# Altium schematic symbol library YL-LPC4350-CORE-V1.0 _Library.SchLib: 156 symbols (part 9 of 10)

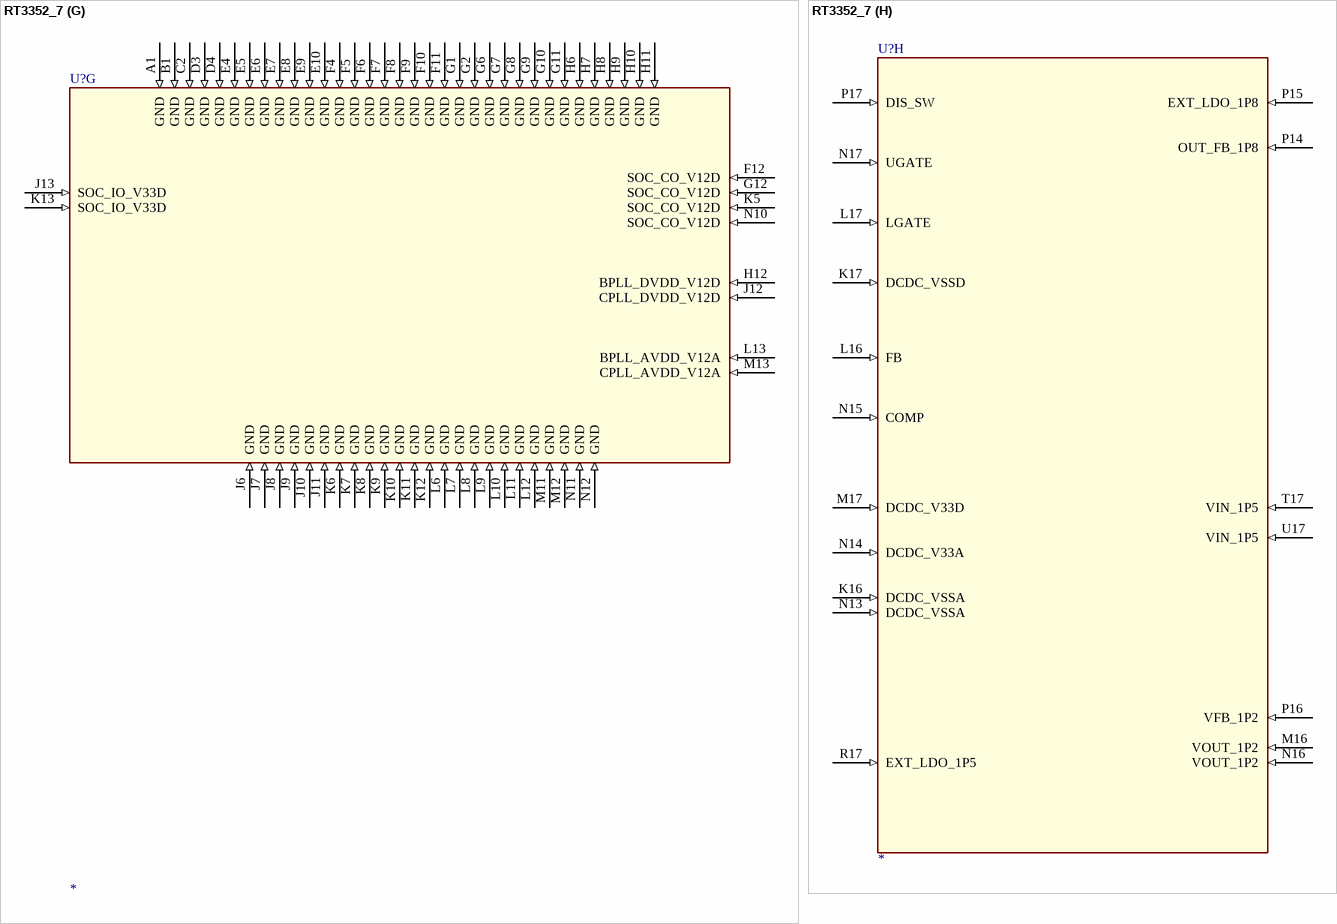
[diagram p117: symbol RT3352_7]

## RT3352_7
designator U?
part A pins: A6 PLL_VC_CAP (in), A7 LDORF_OUT_V12 (out), A8 RF_BB2_V12A (in), A9 ADC_V12 (in), B6 BG_V33A (in), B7 LDORF_IN_VX (in), B8 PLL_X2 (out), B9 PLL_X1 (in), C3 RF0_V12A (in), C4 RF0_IF_V12A (in), C5 VCO_V12A (in), C6 LDOPLL_OUT_V12 (out), C7 BG_RES_12K (in), D5 PLL_V12A (in), D6 RF_BB1_V12A (in), E3 RF1_IF_V12A (in), F3 RF1_V12A (in)
part B pins: A2 RF0_PA_OUTN (out), A3 RF0_PA_OUTP (out), A4 RF0_2G_INN (in), A5 RF0_2G_INP (in), A10 LNA_PE_G1 (out), A11 ANT_TRNB (out), B2 RF0_PA_V33N (in), B3 RF0_PA_V33P (in), B4 RF0_PA1_V33A (in), B10 LNA_PE_G0 (out), B11 ANT_TRN (out), C1 RF1_2G_INP (in), C8 BASE_TRX_IP (io), C9 BASE_TRX_IN (io), C10 PA_PE_G1 (out), D1 RF1_2G_INN (in), D2 RF1_PA_V33A (in), D7 RF_TSSI_IN (in), D8 BASE_TRX_QP (io), D9 BASE_TRX_QN (io), D10 PA_PE_G0 (out), D13 WLAN_LED_N (out), E1 RF1_PA_OUTP (out), E2 RF1_PA_V33P (in), F1 RF1_PA_OUTN (out), F2 RF1_PA_V33N (in)
part C pins: H15 MD0 (io), H16 MD1 (io), H17 MD2 (io), J12 DDR_IOC_V12D (in), J13 DDR_IOC_V12D (in), J14 MD3 (io), J15 MDQM0 (io), J16 MDQS0 (io), J17 MD6 (io), K12 DDR_IO_V33D (in), K13 DDR_IO_V33D (in), K14 MD8 (io), K15 MD7 (io), K16 MD5 (io), K17 MD4 (io), L12 DDR_IOL_V33D (in), L13 DDR_IOL_V33D (in), L14 MD13 (io), L15 MD10 (io), L16 MD11 (io), L17 MD9 (io), M11 DDR_IO_V33D (in), M12 DDR_IOR_V09D (in), M13 MD15 (io), M14 MD12 (io), M15 MD14 (io), M16 MDQS1 (io), M17 MDQM1 (io), N8 DDR_IO_V33D (in), N9 DDR_IO_V33D (in), N10 DDR_IO_V33D (in), N11 DDR_IO_V33D (in), N12 DDR_IOR_V09D (in), N13 MA0 (io), N14 MA3 (io), N15 MA8 (io), N16 MA10 (io), N17 MA13 (io), P8 MD31 (io), P9 MDQS3 (io), P10 MD22 (io), P11 MDQM2 (io), P12 MD16 (io), P13 MODT (io), P14 MA6 (io), P15 MA4 (io), P16 MA5 (io), P17 MA12 (io), R8 MD30 (io), R9 MD27 (io), R10 MD23 (io), R11 MDQS2 (io), R12 MD17 (io), R13 MCKE (io), R14 MCAS_N (io), R15 MA2 (io), R16 MA7 (io), R17 MA11 (io), T8 MD29 (io), T9 MDQM3 (io), T10 MD24 (io), T11 MD20 (io), T12 MD18 (io), T13 MCK_N (io), T14 MRAS_N (io), T15 MBA0 (io), T16 MA1 (io), T17 MA9 (io), U8 MD28 (io), U9 MD25 (io), U10 MD26 (io), U11 MD21 (io), U12 MD19 (io), U13 MCK_P (io), U14 MWE_N (io), U15 MBA1 (io), U16 MBA2 (io), U17 MCS_N (io)
part D pins: ?? NC (io), A13 JTAG_TMS (in), A14 SPI_MISO (in), A15 SPI_CS0 (out), A16 TXD (out), A17 RTS_N (out), B13 JTAG_TCLK (in), B14 SPI_MOSI (out), B15 SPI_CLK (out), B16 DTR_N (out), B17 DCD_N (in), C12 GPIO0 (io), C13 JTAG_TRST_N (in), C14 SPI_CS1 (out), C15 DSR_N (in), C16 CTS_N (in), D12 JTAG_TDO (out), D14 RIN (in), D15 RXD (in), E12 JTAG_TDI (in), E13 PORST_N (in), G15 RXD2 (in), G16 TXD2 (out), G17 I2C_SCLK (io), H14 I2C_SD (out)
part E pins: C17 UPHY1_PADP (io), D16 UPHY1_ID (io), D17 UPHY1_PADM (io), E14 UPHY_VDDL_V12D (in), E15 UPHY1_VBUS (io), E16 UPHY1_VRES (io), E17 UPHY0_PADP (io), F14 UPHY_VDDA_V33A (in), F15 UPHY0_VBUS (io), F16 UPHY0_VRES (io), F17 UPHY0_PADM (io), G14 UPHY0_ID (io)
part F pins: A12 EPHY_LED1_N (out), B12 EPHY_LED0_N (out), C11 EPHY_LED4_N (out), D11 EPHY_LED3_N (out), E11 EPHY_LED2_N (out), H3 MDC (out), H4 GE1_RXD0 (in), J3 MDIO (io), J4 GE1_RXDV (in), K3 GE1_RXD1 (in), K4 GE1_RXCLK (io), L3 GE1_RXD2 (in), L4 GE1_RXD3 (in), M3 GE1_TXD2 (out), M4 GE1_TXD3 (out), N3 GE1_TXD1 (out), N4 GE1_TXCLK (io), P3 GE1_TXD0 (out), P4 GE1_TXEN (out), P5 EPHY_V33A (in), P6 EPHY_V33A (in), P7 EPHY_V33A (in), R1 EPHY_REF_RES (io), R2 EPHY_TXN_p0 (out), R3 EPHY_RXN_p1 (in), R4 EPHY_RXN_p2 (in), R5 EPHY_RXP_p2 (in), R6 EPHY_RXP_p3 (in), R7 EPHY_RXN_p3 (in), T1 EPHY_RXN_p0 (in), T2 EPHY_TXP_p0 (out), T3 EPHY_RXP_p1 (in), T4 EPHY_TXN_p2 (out), T5 EPHY_TXN_p3 (out), T6 EPHY_RXN_p4 (in), T7 EPHY_TXN_p4 (out), U1 EPHY_RXP_p0 (in), U2 EPHY_TXP_p1 (out), U3 EPHY_TXN_p1 (out), U4 EPHY_TXP_p2 (out), U5 EPHY_TXP_p3 (out), U6 EPHY_RXP_p4 (in), U7 EPHY_TXP_p4 (out)
part G pins: A1 GND (in), B1 GND (in), C2 GND (in), D3 GND (in), D4 GND (in), E4 GND (in), E5 GND (in), E6 GND (in), E7 GND (in), E8 GND (in), E9 GND (in), E10 GND (in), F4 GND (in), F5 GND (in), F6 GND (in), F7 GND (in), F8 GND (in), F9 GND (in), F10 GND (in), F11 GND (in), F12 SOC_CO_V12D (in), G1 GND (in), G2 GND (in), G6 GND (in), G7 GND (in), G8 GND (in), G9 GND (in), G10 GND (in), G11 GND (in), G12 SOC_CO_V12D (in), H6 GND (in), H7 GND (in), H8 GND (in), H9 GND (in), H10 GND (in), H11 GND (in), H12 BPLL_DVDD_V12D (in), J6 GND (in), J7 GND (in), J8 GND (in), J9 GND (in), J10 GND (in), J11 GND (in), J12 CPLL_DVDD_V12D (in), J13 SOC_IO_V33D (in), K5 SOC_CO_V12D (in), K6 GND (in), K7 GND (in), K8 GND (in), K9 GND (in), K10 GND (in), K11 GND (in), K12 GND (in), K13 SOC_IO_V33D (in), L6 GND (in), L7 GND (in), L8 GND (in), L9 GND (in), L10 GND (in), L11 GND (in), L12 GND (in), L13 BPLL_AVDD_V12A (in), M11 GND (in), M12 GND (in), M13 CPLL_AVDD_V12A (in), N10 SOC_CO_V12D (in), N11 GND (in), N12 GND (in)
part H pins: K16 DCDC_VSSA (in), K17 DCDC_VSSD (in), L16 FB (in), L17 LGATE (in), M16 VOUT_1P2 (in), M17 DCDC_V33D (in), N13 DCDC_VSSA (in), N14 DCDC_V33A (in), N15 COMP (in), N16 VOUT_1P2 (in), N17 UGATE (in), P14 OUT_FB_1P8 (in), P15 EXT_LDO_1P8 (in), P16 VFB_1P2 (in), P17 DIS_SW (in), R17 EXT_LDO_1P5 (in), T17 VIN_1P5 (in), U17 VIN_1P5 (in)

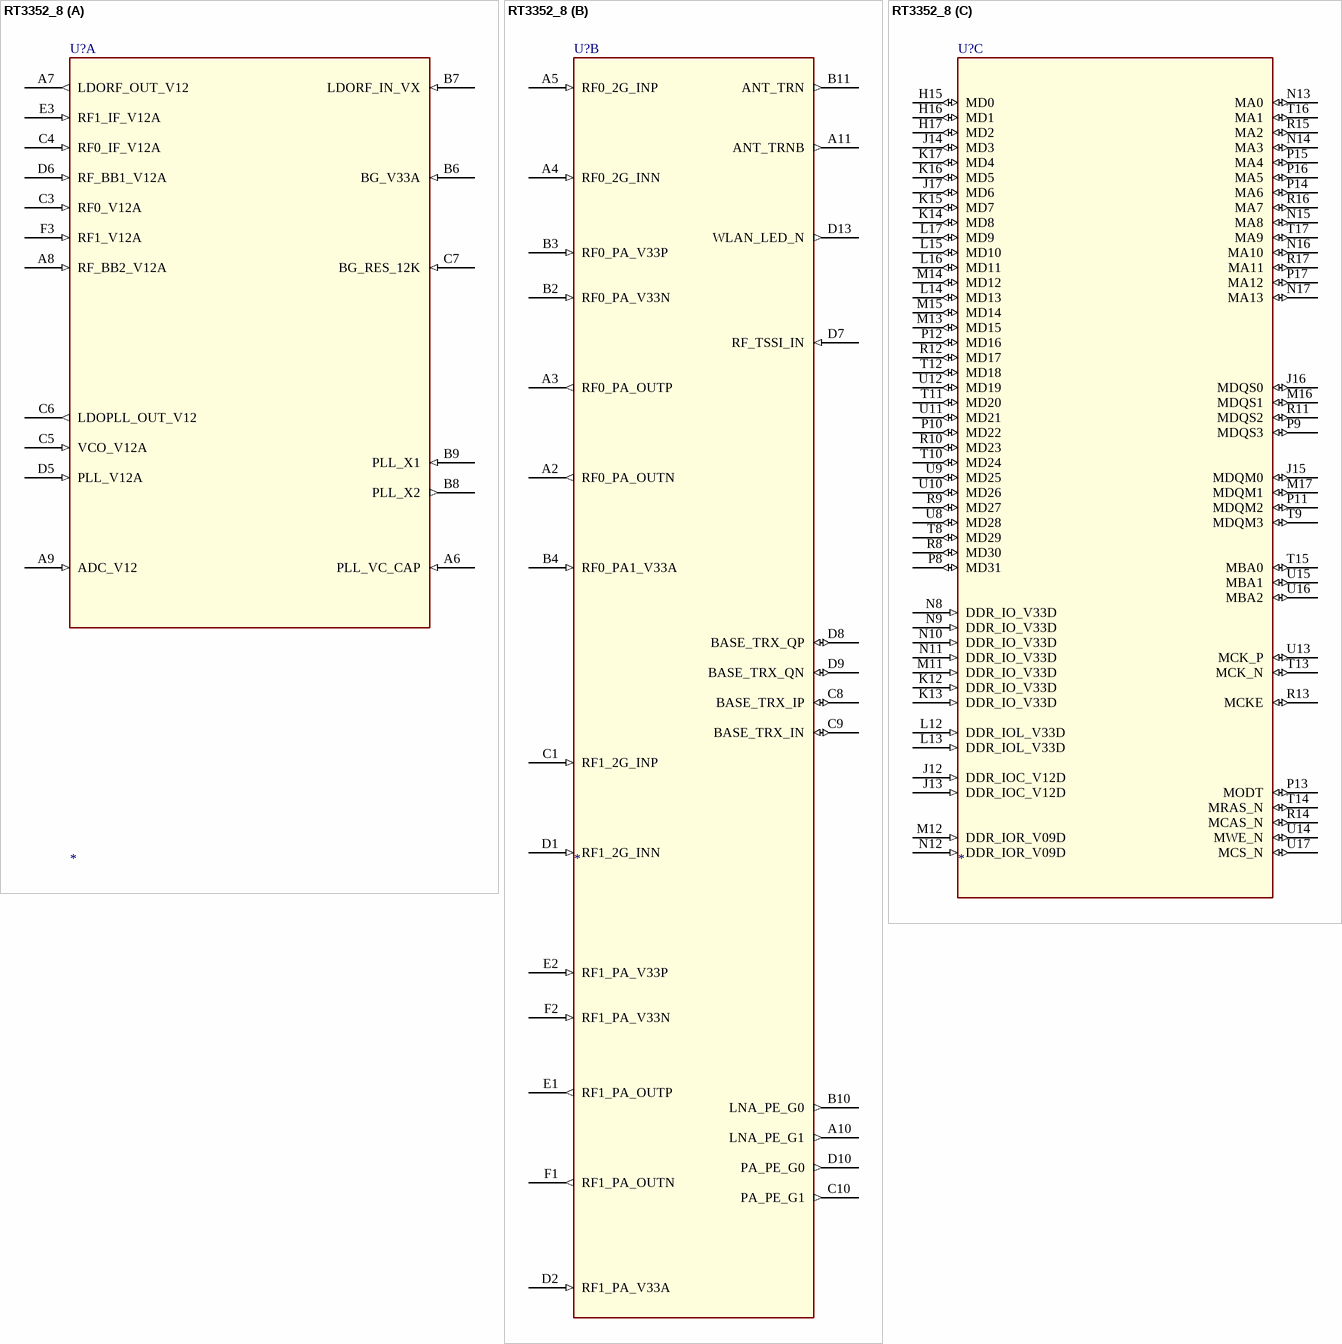
[diagram p118: symbol RT3352_8]

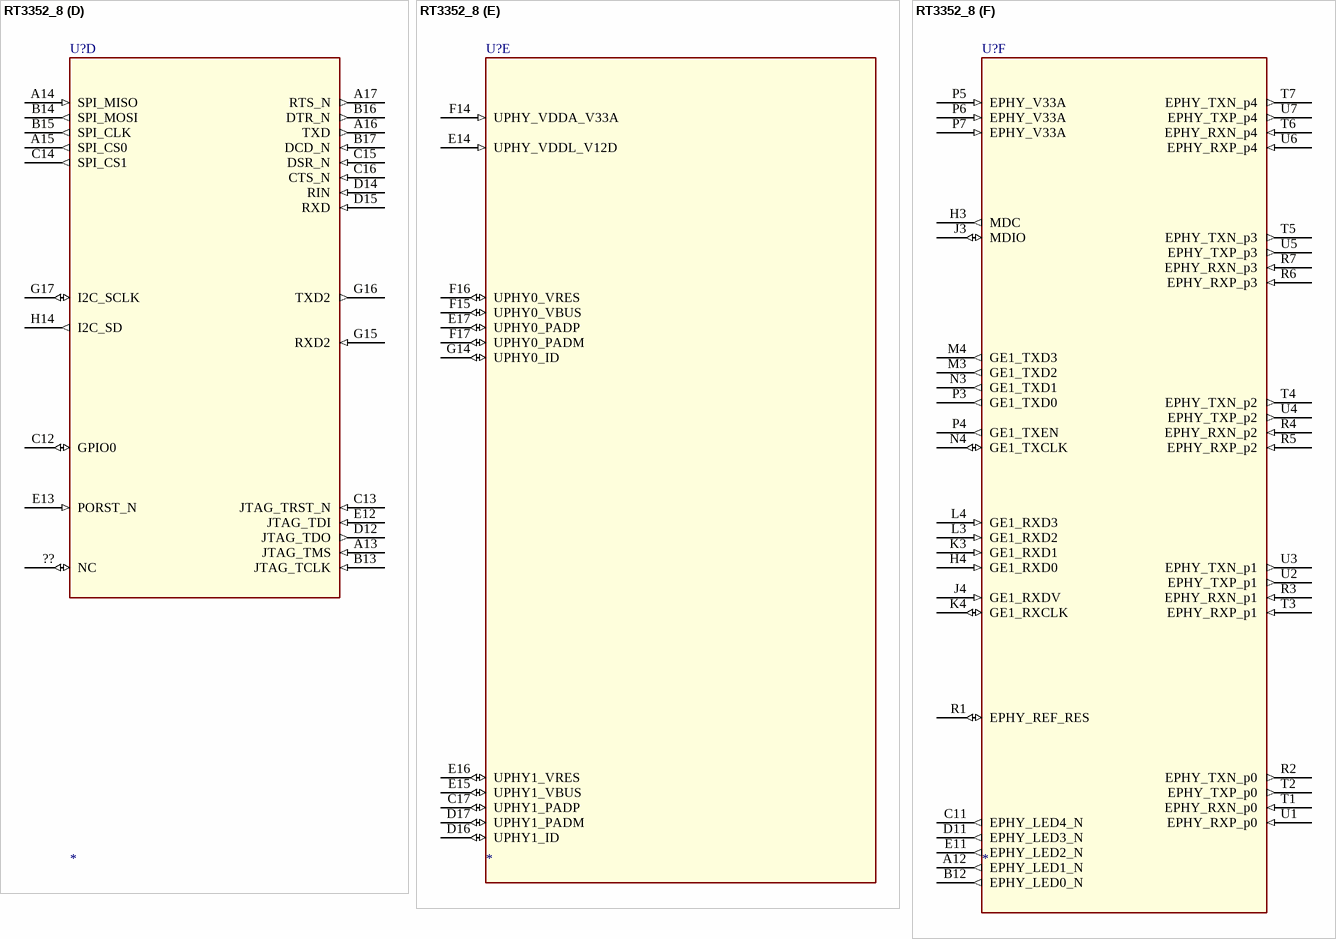
[diagram p119: symbol RT3352_8]

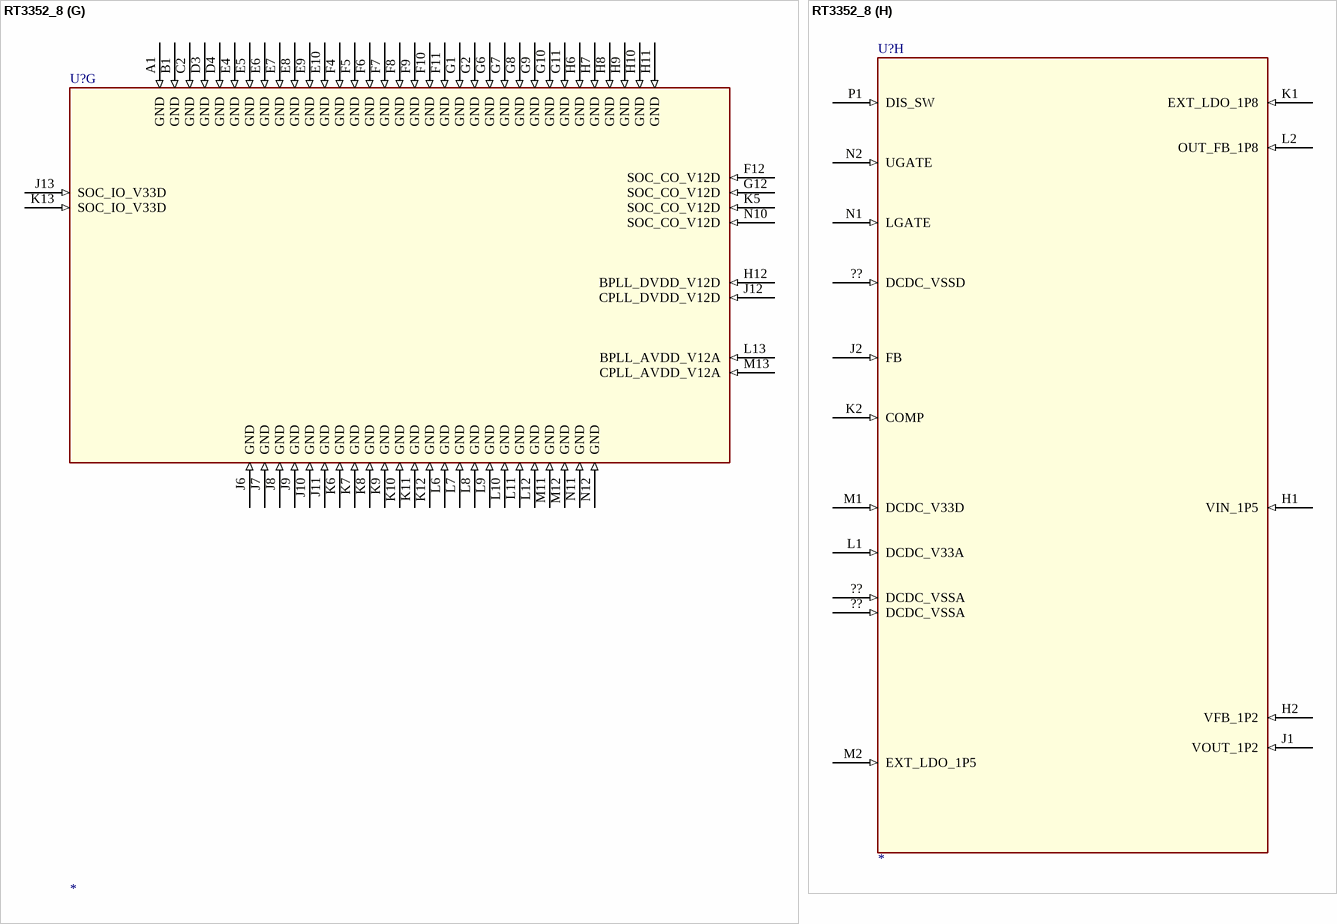
[diagram p120: symbol RT3352_8]

## RT3352_8
designator U?
part A pins: A6 PLL_VC_CAP (in), A7 LDORF_OUT_V12 (out), A8 RF_BB2_V12A (in), A9 ADC_V12 (in), B6 BG_V33A (in), B7 LDORF_IN_VX (in), B8 PLL_X2 (out), B9 PLL_X1 (in), C3 RF0_V12A (in), C4 RF0_IF_V12A (in), C5 VCO_V12A (in), C6 LDOPLL_OUT_V12 (out), C7 BG_RES_12K (in), D5 PLL_V12A (in), D6 RF_BB1_V12A (in), E3 RF1_IF_V12A (in), F3 RF1_V12A (in)
part B pins: A2 RF0_PA_OUTN (out), A3 RF0_PA_OUTP (out), A4 RF0_2G_INN (in), A5 RF0_2G_INP (in), A10 LNA_PE_G1 (out), A11 ANT_TRNB (out), B2 RF0_PA_V33N (in), B3 RF0_PA_V33P (in), B4 RF0_PA1_V33A (in), B10 LNA_PE_G0 (out), B11 ANT_TRN (out), C1 RF1_2G_INP (in), C8 BASE_TRX_IP (io), C9 BASE_TRX_IN (io), C10 PA_PE_G1 (out), D1 RF1_2G_INN (in), D2 RF1_PA_V33A (in), D7 RF_TSSI_IN (in), D8 BASE_TRX_QP (io), D9 BASE_TRX_QN (io), D10 PA_PE_G0 (out), D13 WLAN_LED_N (out), E1 RF1_PA_OUTP (out), E2 RF1_PA_V33P (in), F1 RF1_PA_OUTN (out), F2 RF1_PA_V33N (in)
part C pins: H15 MD0 (io), H16 MD1 (io), H17 MD2 (io), J12 DDR_IOC_V12D (in), J13 DDR_IOC_V12D (in), J14 MD3 (io), J15 MDQM0 (io), J16 MDQS0 (io), J17 MD6 (io), K12 DDR_IO_V33D (in), K13 DDR_IO_V33D (in), K14 MD8 (io), K15 MD7 (io), K16 MD5 (io), K17 MD4 (io), L12 DDR_IOL_V33D (in), L13 DDR_IOL_V33D (in), L14 MD13 (io), L15 MD10 (io), L16 MD11 (io), L17 MD9 (io), M11 DDR_IO_V33D (in), M12 DDR_IOR_V09D (in), M13 MD15 (io), M14 MD12 (io), M15 MD14 (io), M16 MDQS1 (io), M17 MDQM1 (io), N8 DDR_IO_V33D (in), N9 DDR_IO_V33D (in), N10 DDR_IO_V33D (in), N11 DDR_IO_V33D (in), N12 DDR_IOR_V09D (in), N13 MA0 (io), N14 MA3 (io), N15 MA8 (io), N16 MA10 (io), N17 MA13 (io), P8 MD31 (io), P9 MDQS3 (io), P10 MD22 (io), P11 MDQM2 (io), P12 MD16 (io), P13 MODT (io), P14 MA6 (io), P15 MA4 (io), P16 MA5 (io), P17 MA12 (io), R8 MD30 (io), R9 MD27 (io), R10 MD23 (io), R11 MDQS2 (io), R12 MD17 (io), R13 MCKE (io), R14 MCAS_N (io), R15 MA2 (io), R16 MA7 (io), R17 MA11 (io), T8 MD29 (io), T9 MDQM3 (io), T10 MD24 (io), T11 MD20 (io), T12 MD18 (io), T13 MCK_N (io), T14 MRAS_N (io), T15 MBA0 (io), T16 MA1 (io), T17 MA9 (io), U8 MD28 (io), U9 MD25 (io), U10 MD26 (io), U11 MD21 (io), U12 MD19 (io), U13 MCK_P (io), U14 MWE_N (io), U15 MBA1 (io), U16 MBA2 (io), U17 MCS_N (io)
part D pins: ?? NC (io), A13 JTAG_TMS (in), A14 SPI_MISO (in), A15 SPI_CS0 (out), A16 TXD (out), A17 RTS_N (out), B13 JTAG_TCLK (in), B14 SPI_MOSI (out), B15 SPI_CLK (out), B16 DTR_N (out), B17 DCD_N (in), C12 GPIO0 (io), C13 JTAG_TRST_N (in), C14 SPI_CS1 (out), C15 DSR_N (in), C16 CTS_N (in), D12 JTAG_TDO (out), D14 RIN (in), D15 RXD (in), E12 JTAG_TDI (in), E13 PORST_N (in), G15 RXD2 (in), G16 TXD2 (out), G17 I2C_SCLK (io), H14 I2C_SD (out)
part E pins: C17 UPHY1_PADP (io), D16 UPHY1_ID (io), D17 UPHY1_PADM (io), E14 UPHY_VDDL_V12D (in), E15 UPHY1_VBUS (io), E16 UPHY1_VRES (io), E17 UPHY0_PADP (io), F14 UPHY_VDDA_V33A (in), F15 UPHY0_VBUS (io), F16 UPHY0_VRES (io), F17 UPHY0_PADM (io), G14 UPHY0_ID (io)
part F pins: A12 EPHY_LED1_N (out), B12 EPHY_LED0_N (out), C11 EPHY_LED4_N (out), D11 EPHY_LED3_N (out), E11 EPHY_LED2_N (out), H3 MDC (out), H4 GE1_RXD0 (in), J3 MDIO (io), J4 GE1_RXDV (in), K3 GE1_RXD1 (in), K4 GE1_RXCLK (io), L3 GE1_RXD2 (in), L4 GE1_RXD3 (in), M3 GE1_TXD2 (out), M4 GE1_TXD3 (out), N3 GE1_TXD1 (out), N4 GE1_TXCLK (io), P3 GE1_TXD0 (out), P4 GE1_TXEN (out), P5 EPHY_V33A (in), P6 EPHY_V33A (in), P7 EPHY_V33A (in), R1 EPHY_REF_RES (io), R2 EPHY_TXN_p0 (out), R3 EPHY_RXN_p1 (in), R4 EPHY_RXN_p2 (in), R5 EPHY_RXP_p2 (in), R6 EPHY_RXP_p3 (in), R7 EPHY_RXN_p3 (in), T1 EPHY_RXN_p0 (in), T2 EPHY_TXP_p0 (out), T3 EPHY_RXP_p1 (in), T4 EPHY_TXN_p2 (out), T5 EPHY_TXN_p3 (out), T6 EPHY_RXN_p4 (in), T7 EPHY_TXN_p4 (out), U1 EPHY_RXP_p0 (in), U2 EPHY_TXP_p1 (out), U3 EPHY_TXN_p1 (out), U4 EPHY_TXP_p2 (out), U5 EPHY_TXP_p3 (out), U6 EPHY_RXP_p4 (in), U7 EPHY_TXP_p4 (out)
part G pins: A1 GND (in), B1 GND (in), C2 GND (in), D3 GND (in), D4 GND (in), E4 GND (in), E5 GND (in), E6 GND (in), E7 GND (in), E8 GND (in), E9 GND (in), E10 GND (in), F4 GND (in), F5 GND (in), F6 GND (in), F7 GND (in), F8 GND (in), F9 GND (in), F10 GND (in), F11 GND (in), F12 SOC_CO_V12D (in), G1 GND (in), G2 GND (in), G6 GND (in), G7 GND (in), G8 GND (in), G9 GND (in), G10 GND (in), G11 GND (in), G12 SOC_CO_V12D (in), H6 GND (in), H7 GND (in), H8 GND (in), H9 GND (in), H10 GND (in), H11 GND (in), H12 BPLL_DVDD_V12D (in), J6 GND (in), J7 GND (in), J8 GND (in), J9 GND (in), J10 GND (in), J11 GND (in), J12 CPLL_DVDD_V12D (in), J13 SOC_IO_V33D (in), K5 SOC_CO_V12D (in), K6 GND (in), K7 GND (in), K8 GND (in), K9 GND (in), K10 GND (in), K11 GND (in), K12 GND (in), K13 SOC_IO_V33D (in), L6 GND (in), L7 GND (in), L8 GND (in), L9 GND (in), L10 GND (in), L11 GND (in), L12 GND (in), L13 BPLL_AVDD_V12A (in), M11 GND (in), M12 GND (in), M13 CPLL_AVDD_V12A (in), N10 SOC_CO_V12D (in), N11 GND (in), N12 GND (in)
part H pins: ?? DCDC_VSSD (in), ?? DCDC_VSSA (in), ?? DCDC_VSSA (in), H1 VIN_1P5 (in), H2 VFB_1P2 (in), J1 VOUT_1P2 (in), J2 FB (in), K1 EXT_LDO_1P8 (in), K2 COMP (in), L1 DCDC_V33A (in), L2 OUT_FB_1P8 (in), M1 DCDC_V33D (in), M2 EXT_LDO_1P5 (in), N1 LGATE (in), N2 UGATE (in), P1 DIS_SW (in)

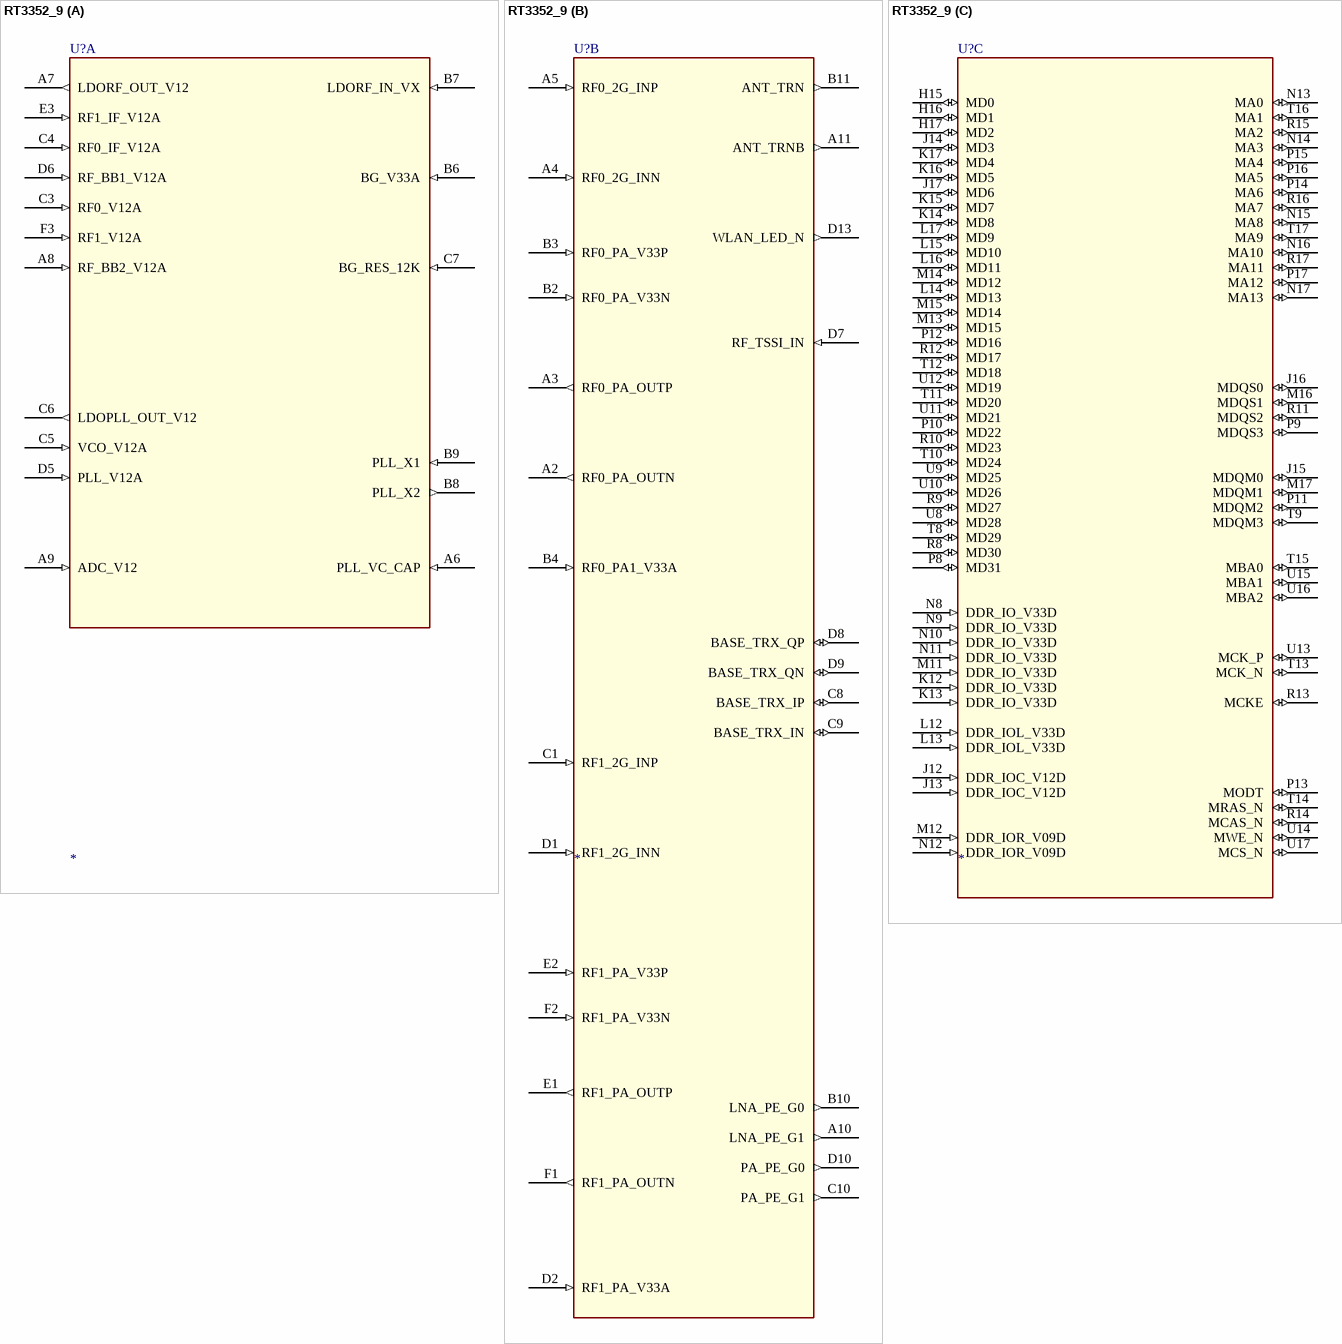
[diagram p121: symbol RT3352_9]

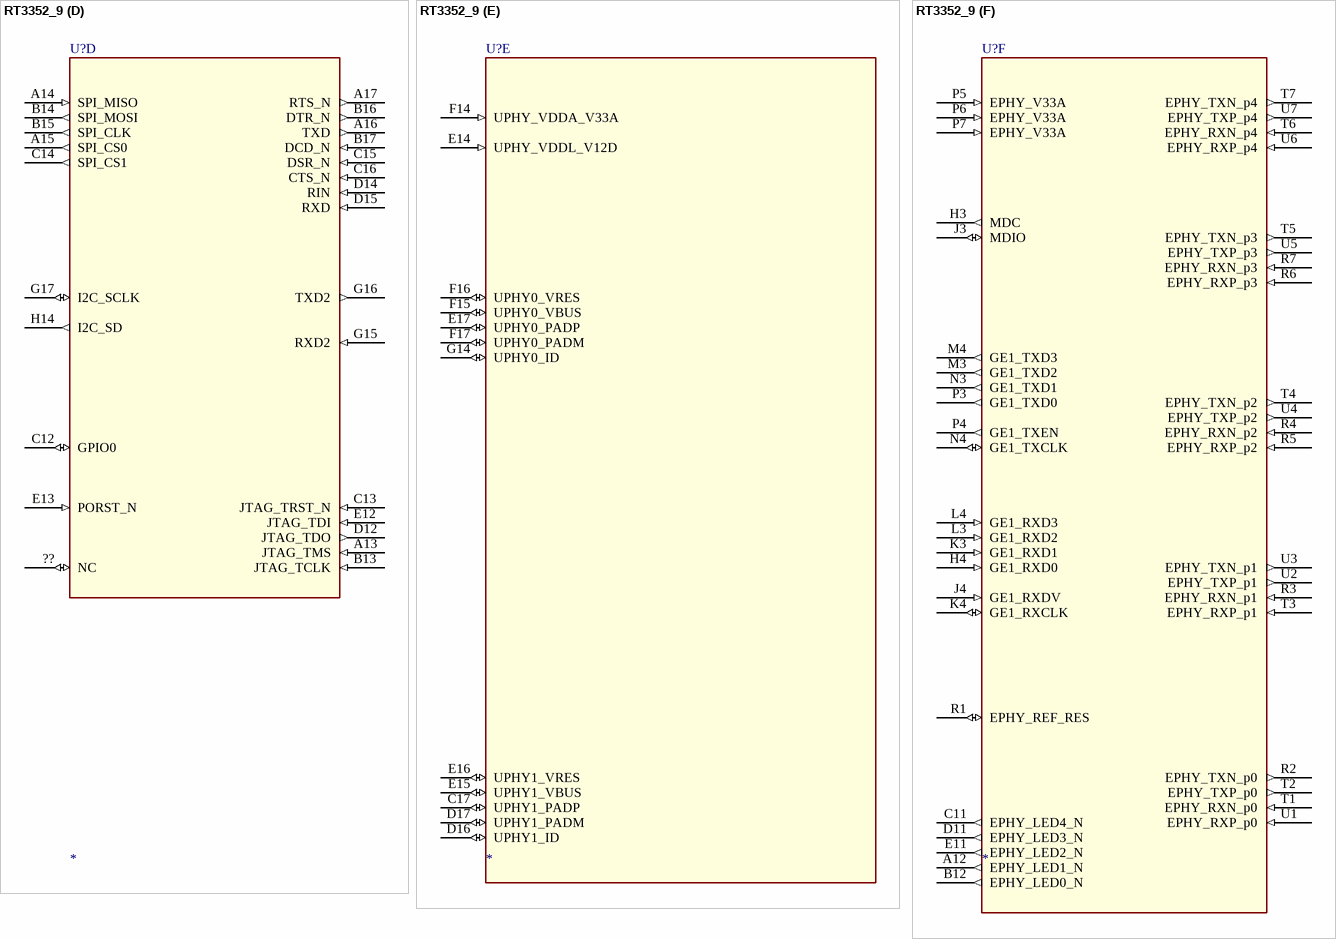
[diagram p122: symbol RT3352_9]

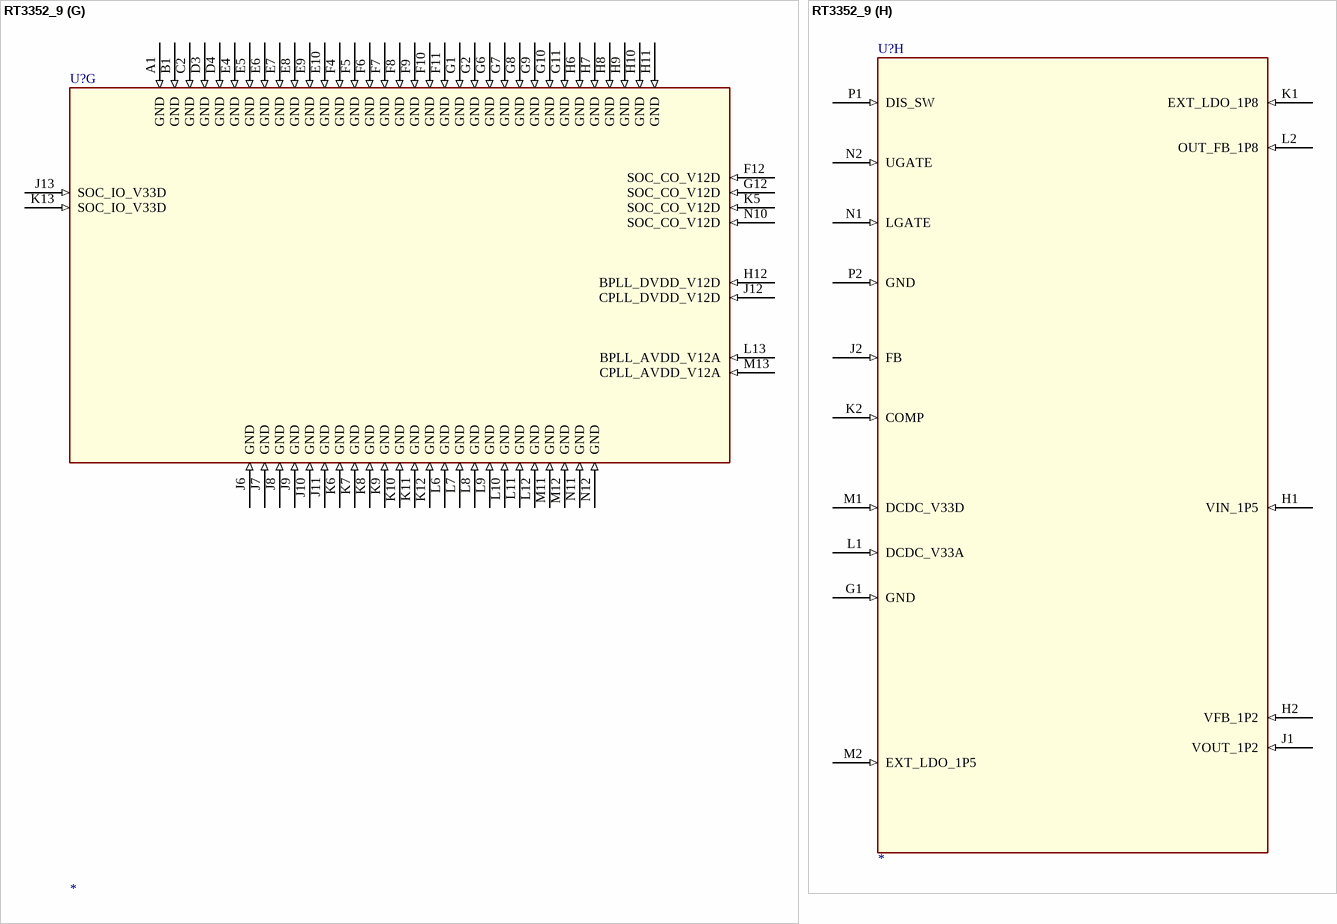
[diagram p123: symbol RT3352_9]

## RT3352_9
designator U?
part A pins: A6 PLL_VC_CAP (in), A7 LDORF_OUT_V12 (out), A8 RF_BB2_V12A (in), A9 ADC_V12 (in), B6 BG_V33A (in), B7 LDORF_IN_VX (in), B8 PLL_X2 (out), B9 PLL_X1 (in), C3 RF0_V12A (in), C4 RF0_IF_V12A (in), C5 VCO_V12A (in), C6 LDOPLL_OUT_V12 (out), C7 BG_RES_12K (in), D5 PLL_V12A (in), D6 RF_BB1_V12A (in), E3 RF1_IF_V12A (in), F3 RF1_V12A (in)
part B pins: A2 RF0_PA_OUTN (out), A3 RF0_PA_OUTP (out), A4 RF0_2G_INN (in), A5 RF0_2G_INP (in), A10 LNA_PE_G1 (out), A11 ANT_TRNB (out), B2 RF0_PA_V33N (in), B3 RF0_PA_V33P (in), B4 RF0_PA1_V33A (in), B10 LNA_PE_G0 (out), B11 ANT_TRN (out), C1 RF1_2G_INP (in), C8 BASE_TRX_IP (io), C9 BASE_TRX_IN (io), C10 PA_PE_G1 (out), D1 RF1_2G_INN (in), D2 RF1_PA_V33A (in), D7 RF_TSSI_IN (in), D8 BASE_TRX_QP (io), D9 BASE_TRX_QN (io), D10 PA_PE_G0 (out), D13 WLAN_LED_N (out), E1 RF1_PA_OUTP (out), E2 RF1_PA_V33P (in), F1 RF1_PA_OUTN (out), F2 RF1_PA_V33N (in)
part C pins: H15 MD0 (io), H16 MD1 (io), H17 MD2 (io), J12 DDR_IOC_V12D (in), J13 DDR_IOC_V12D (in), J14 MD3 (io), J15 MDQM0 (io), J16 MDQS0 (io), J17 MD6 (io), K12 DDR_IO_V33D (in), K13 DDR_IO_V33D (in), K14 MD8 (io), K15 MD7 (io), K16 MD5 (io), K17 MD4 (io), L12 DDR_IOL_V33D (in), L13 DDR_IOL_V33D (in), L14 MD13 (io), L15 MD10 (io), L16 MD11 (io), L17 MD9 (io), M11 DDR_IO_V33D (in), M12 DDR_IOR_V09D (in), M13 MD15 (io), M14 MD12 (io), M15 MD14 (io), M16 MDQS1 (io), M17 MDQM1 (io), N8 DDR_IO_V33D (in), N9 DDR_IO_V33D (in), N10 DDR_IO_V33D (in), N11 DDR_IO_V33D (in), N12 DDR_IOR_V09D (in), N13 MA0 (io), N14 MA3 (io), N15 MA8 (io), N16 MA10 (io), N17 MA13 (io), P8 MD31 (io), P9 MDQS3 (io), P10 MD22 (io), P11 MDQM2 (io), P12 MD16 (io), P13 MODT (io), P14 MA6 (io), P15 MA4 (io), P16 MA5 (io), P17 MA12 (io), R8 MD30 (io), R9 MD27 (io), R10 MD23 (io), R11 MDQS2 (io), R12 MD17 (io), R13 MCKE (io), R14 MCAS_N (io), R15 MA2 (io), R16 MA7 (io), R17 MA11 (io), T8 MD29 (io), T9 MDQM3 (io), T10 MD24 (io), T11 MD20 (io), T12 MD18 (io), T13 MCK_N (io), T14 MRAS_N (io), T15 MBA0 (io), T16 MA1 (io), T17 MA9 (io), U8 MD28 (io), U9 MD25 (io), U10 MD26 (io), U11 MD21 (io), U12 MD19 (io), U13 MCK_P (io), U14 MWE_N (io), U15 MBA1 (io), U16 MBA2 (io), U17 MCS_N (io)
part D pins: ?? NC (io), A13 JTAG_TMS (in), A14 SPI_MISO (in), A15 SPI_CS0 (out), A16 TXD (out), A17 RTS_N (out), B13 JTAG_TCLK (in), B14 SPI_MOSI (out), B15 SPI_CLK (out), B16 DTR_N (out), B17 DCD_N (in), C12 GPIO0 (io), C13 JTAG_TRST_N (in), C14 SPI_CS1 (out), C15 DSR_N (in), C16 CTS_N (in), D12 JTAG_TDO (out), D14 RIN (in), D15 RXD (in), E12 JTAG_TDI (in), E13 PORST_N (in), G15 RXD2 (in), G16 TXD2 (out), G17 I2C_SCLK (io), H14 I2C_SD (out)
part E pins: C17 UPHY1_PADP (io), D16 UPHY1_ID (io), D17 UPHY1_PADM (io), E14 UPHY_VDDL_V12D (in), E15 UPHY1_VBUS (io), E16 UPHY1_VRES (io), E17 UPHY0_PADP (io), F14 UPHY_VDDA_V33A (in), F15 UPHY0_VBUS (io), F16 UPHY0_VRES (io), F17 UPHY0_PADM (io), G14 UPHY0_ID (io)
part F pins: A12 EPHY_LED1_N (out), B12 EPHY_LED0_N (out), C11 EPHY_LED4_N (out), D11 EPHY_LED3_N (out), E11 EPHY_LED2_N (out), H3 MDC (out), H4 GE1_RXD0 (in), J3 MDIO (io), J4 GE1_RXDV (in), K3 GE1_RXD1 (in), K4 GE1_RXCLK (io), L3 GE1_RXD2 (in), L4 GE1_RXD3 (in), M3 GE1_TXD2 (out), M4 GE1_TXD3 (out), N3 GE1_TXD1 (out), N4 GE1_TXCLK (io), P3 GE1_TXD0 (out), P4 GE1_TXEN (out), P5 EPHY_V33A (in), P6 EPHY_V33A (in), P7 EPHY_V33A (in), R1 EPHY_REF_RES (io), R2 EPHY_TXN_p0 (out), R3 EPHY_RXN_p1 (in), R4 EPHY_RXN_p2 (in), R5 EPHY_RXP_p2 (in), R6 EPHY_RXP_p3 (in), R7 EPHY_RXN_p3 (in), T1 EPHY_RXN_p0 (in), T2 EPHY_TXP_p0 (out), T3 EPHY_RXP_p1 (in), T4 EPHY_TXN_p2 (out), T5 EPHY_TXN_p3 (out), T6 EPHY_RXN_p4 (in), T7 EPHY_TXN_p4 (out), U1 EPHY_RXP_p0 (in), U2 EPHY_TXP_p1 (out), U3 EPHY_TXN_p1 (out), U4 EPHY_TXP_p2 (out), U5 EPHY_TXP_p3 (out), U6 EPHY_RXP_p4 (in), U7 EPHY_TXP_p4 (out)
part G pins: A1 GND (in), B1 GND (in), C2 GND (in), D3 GND (in), D4 GND (in), E4 GND (in), E5 GND (in), E6 GND (in), E7 GND (in), E8 GND (in), E9 GND (in), E10 GND (in), F4 GND (in), F5 GND (in), F6 GND (in), F7 GND (in), F8 GND (in), F9 GND (in), F10 GND (in), F11 GND (in), F12 SOC_CO_V12D (in), G1 GND (in), G2 GND (in), G6 GND (in), G7 GND (in), G8 GND (in), G9 GND (in), G10 GND (in), G11 GND (in), G12 SOC_CO_V12D (in), H6 GND (in), H7 GND (in), H8 GND (in), H9 GND (in), H10 GND (in), H11 GND (in), H12 BPLL_DVDD_V12D (in), J6 GND (in), J7 GND (in), J8 GND (in), J9 GND (in), J10 GND (in), J11 GND (in), J12 CPLL_DVDD_V12D (in), J13 SOC_IO_V33D (in), K5 SOC_CO_V12D (in), K6 GND (in), K7 GND (in), K8 GND (in), K9 GND (in), K10 GND (in), K11 GND (in), K12 GND (in), K13 SOC_IO_V33D (in), L6 GND (in), L7 GND (in), L8 GND (in), L9 GND (in), L10 GND (in), L11 GND (in), L12 GND (in), L13 BPLL_AVDD_V12A (in), M11 GND (in), M12 GND (in), M13 CPLL_AVDD_V12A (in), N10 SOC_CO_V12D (in), N11 GND (in), N12 GND (in)
part H pins: G1 GND (in), H1 VIN_1P5 (in), H2 VFB_1P2 (in), J1 VOUT_1P2 (in), J2 FB (in), K1 EXT_LDO_1P8 (in), K2 COMP (in), L1 DCDC_V33A (in), L2 OUT_FB_1P8 (in), M1 DCDC_V33D (in), M2 EXT_LDO_1P5 (in), N1 LGATE (in), N2 UGATE (in), P1 DIS_SW (in), P2 GND (in)

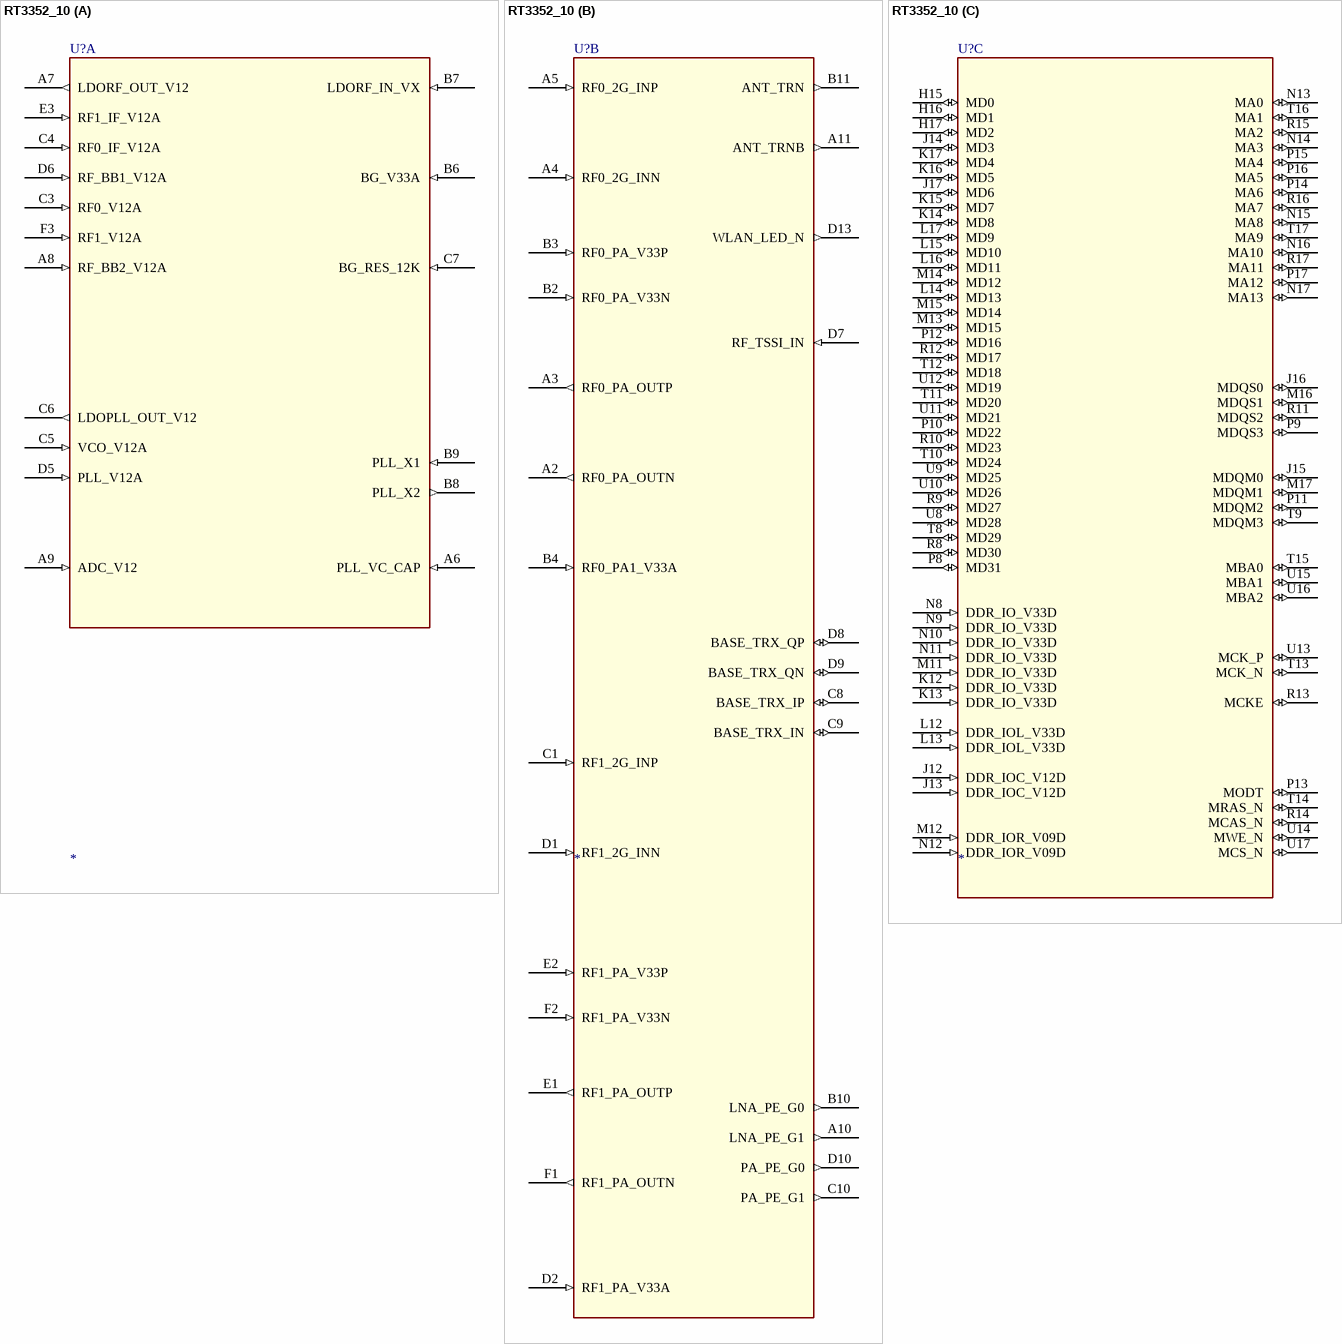
[diagram p124: symbol RT3352_10]

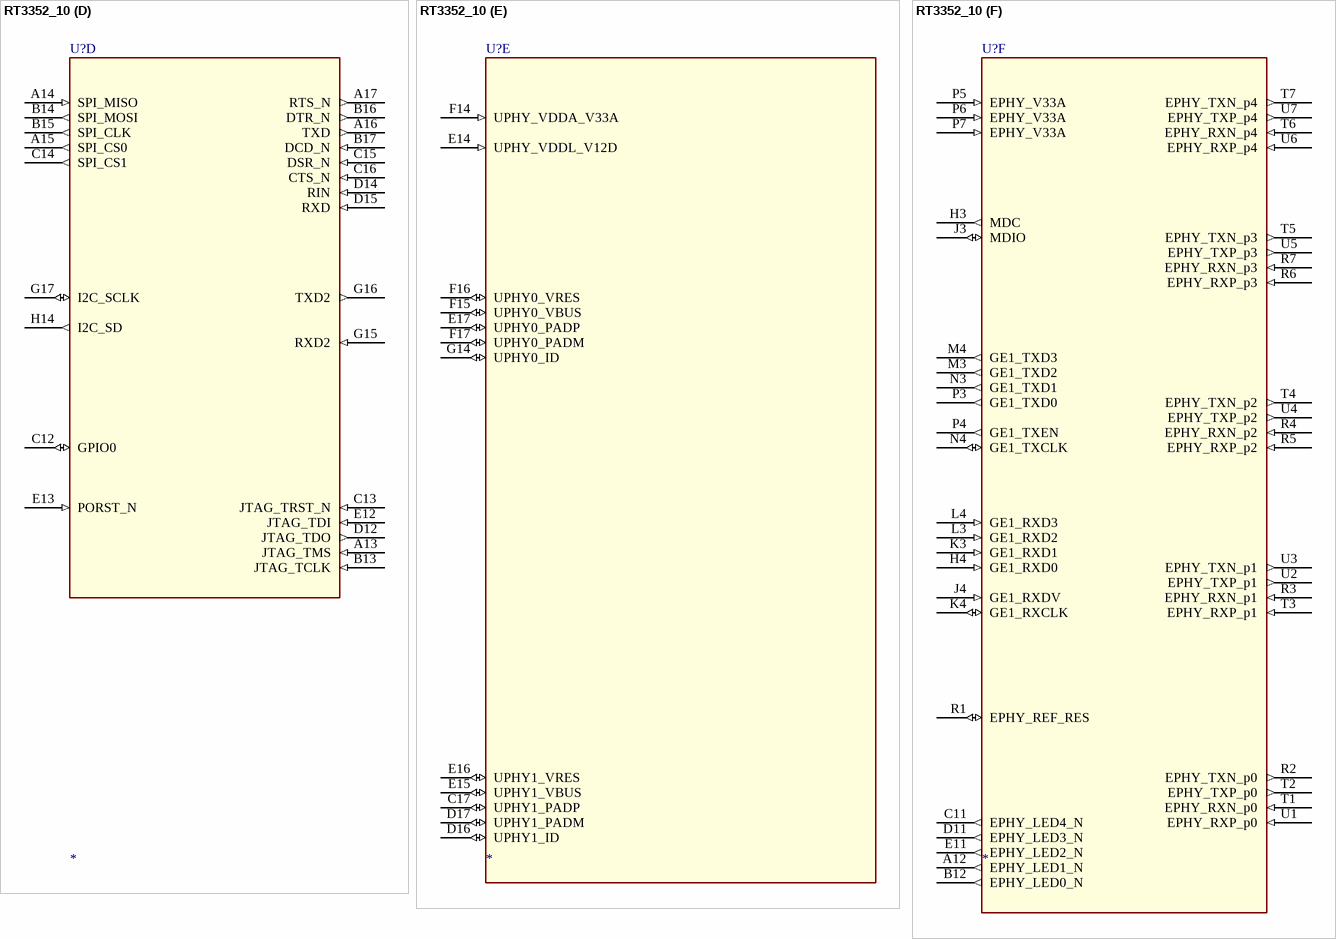
[diagram p125: symbol RT3352_10]

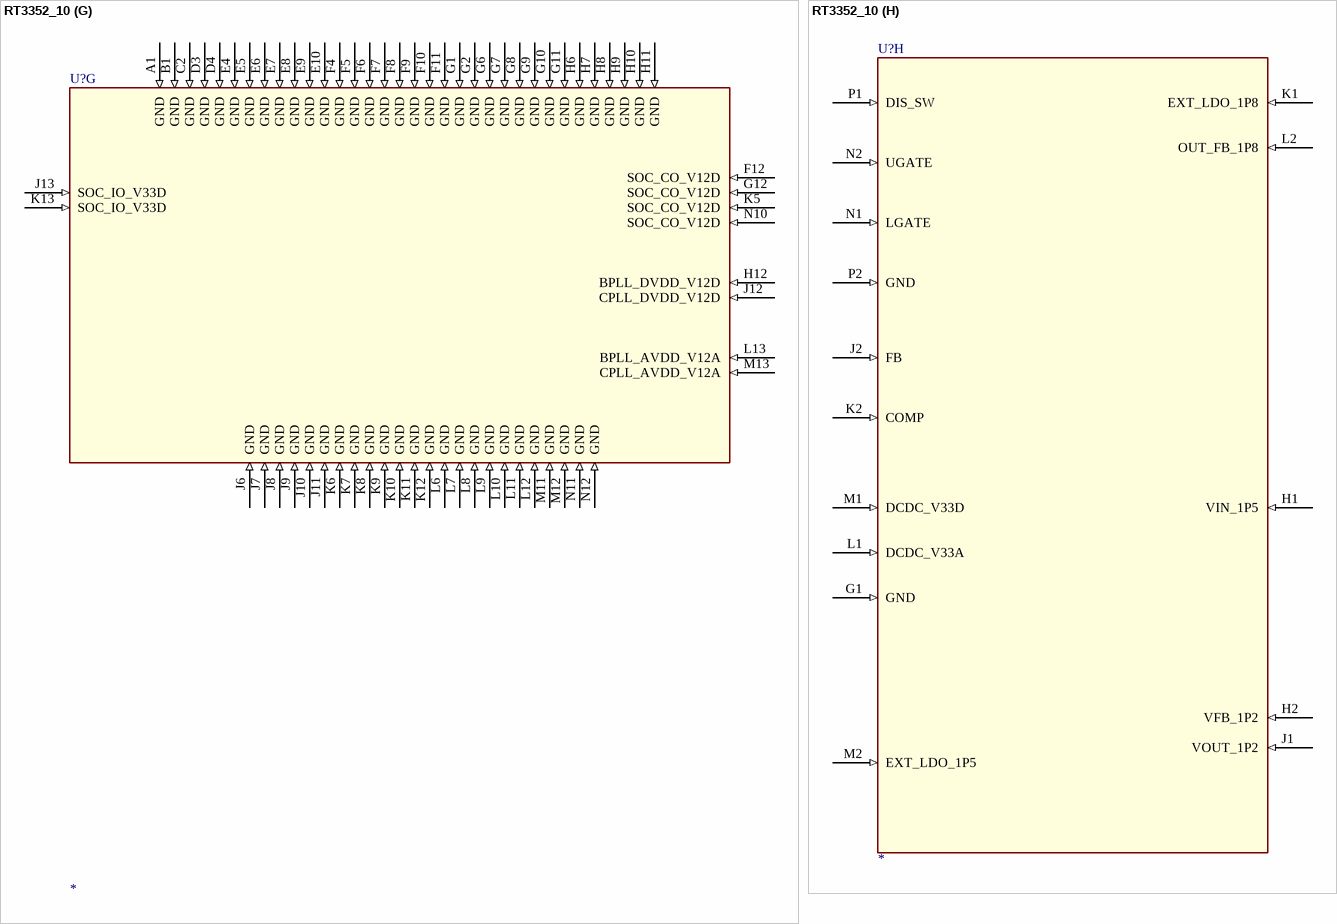
[diagram p126: symbol RT3352_10]

## RT3352_10
designator U?
part A pins: A6 PLL_VC_CAP (in), A7 LDORF_OUT_V12 (out), A8 RF_BB2_V12A (in), A9 ADC_V12 (in), B6 BG_V33A (in), B7 LDORF_IN_VX (in), B8 PLL_X2 (out), B9 PLL_X1 (in), C3 RF0_V12A (in), C4 RF0_IF_V12A (in), C5 VCO_V12A (in), C6 LDOPLL_OUT_V12 (out), C7 BG_RES_12K (in), D5 PLL_V12A (in), D6 RF_BB1_V12A (in), E3 RF1_IF_V12A (in), F3 RF1_V12A (in)
part B pins: A2 RF0_PA_OUTN (out), A3 RF0_PA_OUTP (out), A4 RF0_2G_INN (in), A5 RF0_2G_INP (in), A10 LNA_PE_G1 (out), A11 ANT_TRNB (out), B2 RF0_PA_V33N (in), B3 RF0_PA_V33P (in), B4 RF0_PA1_V33A (in), B10 LNA_PE_G0 (out), B11 ANT_TRN (out), C1 RF1_2G_INP (in), C8 BASE_TRX_IP (io), C9 BASE_TRX_IN (io), C10 PA_PE_G1 (out), D1 RF1_2G_INN (in), D2 RF1_PA_V33A (in), D7 RF_TSSI_IN (in), D8 BASE_TRX_QP (io), D9 BASE_TRX_QN (io), D10 PA_PE_G0 (out), D13 WLAN_LED_N (out), E1 RF1_PA_OUTP (out), E2 RF1_PA_V33P (in), F1 RF1_PA_OUTN (out), F2 RF1_PA_V33N (in)
part C pins: H15 MD0 (io), H16 MD1 (io), H17 MD2 (io), J12 DDR_IOC_V12D (in), J13 DDR_IOC_V12D (in), J14 MD3 (io), J15 MDQM0 (io), J16 MDQS0 (io), J17 MD6 (io), K12 DDR_IO_V33D (in), K13 DDR_IO_V33D (in), K14 MD8 (io), K15 MD7 (io), K16 MD5 (io), K17 MD4 (io), L12 DDR_IOL_V33D (in), L13 DDR_IOL_V33D (in), L14 MD13 (io), L15 MD10 (io), L16 MD11 (io), L17 MD9 (io), M11 DDR_IO_V33D (in), M12 DDR_IOR_V09D (in), M13 MD15 (io), M14 MD12 (io), M15 MD14 (io), M16 MDQS1 (io), M17 MDQM1 (io), N8 DDR_IO_V33D (in), N9 DDR_IO_V33D (in), N10 DDR_IO_V33D (in), N11 DDR_IO_V33D (in), N12 DDR_IOR_V09D (in), N13 MA0 (io), N14 MA3 (io), N15 MA8 (io), N16 MA10 (io), N17 MA13 (io), P8 MD31 (io), P9 MDQS3 (io), P10 MD22 (io), P11 MDQM2 (io), P12 MD16 (io), P13 MODT (io), P14 MA6 (io), P15 MA4 (io), P16 MA5 (io), P17 MA12 (io), R8 MD30 (io), R9 MD27 (io), R10 MD23 (io), R11 MDQS2 (io), R12 MD17 (io), R13 MCKE (io), R14 MCAS_N (io), R15 MA2 (io), R16 MA7 (io), R17 MA11 (io), T8 MD29 (io), T9 MDQM3 (io), T10 MD24 (io), T11 MD20 (io), T12 MD18 (io), T13 MCK_N (io), T14 MRAS_N (io), T15 MBA0 (io), T16 MA1 (io), T17 MA9 (io), U8 MD28 (io), U9 MD25 (io), U10 MD26 (io), U11 MD21 (io), U12 MD19 (io), U13 MCK_P (io), U14 MWE_N (io), U15 MBA1 (io), U16 MBA2 (io), U17 MCS_N (io)
part D pins: A13 JTAG_TMS (in), A14 SPI_MISO (in), A15 SPI_CS0 (out), A16 TXD (out), A17 RTS_N (out), B13 JTAG_TCLK (in), B14 SPI_MOSI (out), B15 SPI_CLK (out), B16 DTR_N (out), B17 DCD_N (in), C12 GPIO0 (io), C13 JTAG_TRST_N (in), C14 SPI_CS1 (out), C15 DSR_N (in), C16 CTS_N (in), D12 JTAG_TDO (out), D14 RIN (in), D15 RXD (in), E12 JTAG_TDI (in), E13 PORST_N (in), G15 RXD2 (in), G16 TXD2 (out), G17 I2C_SCLK (io), H14 I2C_SD (out)
part E pins: C17 UPHY1_PADP (io), D16 UPHY1_ID (io), D17 UPHY1_PADM (io), E14 UPHY_VDDL_V12D (in), E15 UPHY1_VBUS (io), E16 UPHY1_VRES (io), E17 UPHY0_PADP (io), F14 UPHY_VDDA_V33A (in), F15 UPHY0_VBUS (io), F16 UPHY0_VRES (io), F17 UPHY0_PADM (io), G14 UPHY0_ID (io)
part F pins: A12 EPHY_LED1_N (out), B12 EPHY_LED0_N (out), C11 EPHY_LED4_N (out), D11 EPHY_LED3_N (out), E11 EPHY_LED2_N (out), H3 MDC (out), H4 GE1_RXD0 (in), J3 MDIO (io), J4 GE1_RXDV (in), K3 GE1_RXD1 (in), K4 GE1_RXCLK (io), L3 GE1_RXD2 (in), L4 GE1_RXD3 (in), M3 GE1_TXD2 (out), M4 GE1_TXD3 (out), N3 GE1_TXD1 (out), N4 GE1_TXCLK (io), P3 GE1_TXD0 (out), P4 GE1_TXEN (out), P5 EPHY_V33A (in), P6 EPHY_V33A (in), P7 EPHY_V33A (in), R1 EPHY_REF_RES (io), R2 EPHY_TXN_p0 (out), R3 EPHY_RXN_p1 (in), R4 EPHY_RXN_p2 (in), R5 EPHY_RXP_p2 (in), R6 EPHY_RXP_p3 (in), R7 EPHY_RXN_p3 (in), T1 EPHY_RXN_p0 (in), T2 EPHY_TXP_p0 (out), T3 EPHY_RXP_p1 (in), T4 EPHY_TXN_p2 (out), T5 EPHY_TXN_p3 (out), T6 EPHY_RXN_p4 (in), T7 EPHY_TXN_p4 (out), U1 EPHY_RXP_p0 (in), U2 EPHY_TXP_p1 (out), U3 EPHY_TXN_p1 (out), U4 EPHY_TXP_p2 (out), U5 EPHY_TXP_p3 (out), U6 EPHY_RXP_p4 (in), U7 EPHY_TXP_p4 (out)
part G pins: A1 GND (in), B1 GND (in), C2 GND (in), D3 GND (in), D4 GND (in), E4 GND (in), E5 GND (in), E6 GND (in), E7 GND (in), E8 GND (in), E9 GND (in), E10 GND (in), F4 GND (in), F5 GND (in), F6 GND (in), F7 GND (in), F8 GND (in), F9 GND (in), F10 GND (in), F11 GND (in), F12 SOC_CO_V12D (in), G1 GND (in), G2 GND (in), G6 GND (in), G7 GND (in), G8 GND (in), G9 GND (in), G10 GND (in), G11 GND (in), G12 SOC_CO_V12D (in), H6 GND (in), H7 GND (in), H8 GND (in), H9 GND (in), H10 GND (in), H11 GND (in), H12 BPLL_DVDD_V12D (in), J6 GND (in), J7 GND (in), J8 GND (in), J9 GND (in), J10 GND (in), J11 GND (in), J12 CPLL_DVDD_V12D (in), J13 SOC_IO_V33D (in), K5 SOC_CO_V12D (in), K6 GND (in), K7 GND (in), K8 GND (in), K9 GND (in), K10 GND (in), K11 GND (in), K12 GND (in), K13 SOC_IO_V33D (in), L6 GND (in), L7 GND (in), L8 GND (in), L9 GND (in), L10 GND (in), L11 GND (in), L12 GND (in), L13 BPLL_AVDD_V12A (in), M11 GND (in), M12 GND (in), M13 CPLL_AVDD_V12A (in), N10 SOC_CO_V12D (in), N11 GND (in), N12 GND (in)
part H pins: G1 GND (in), H1 VIN_1P5 (in), H2 VFB_1P2 (in), J1 VOUT_1P2 (in), J2 FB (in), K1 EXT_LDO_1P8 (in), K2 COMP (in), L1 DCDC_V33A (in), L2 OUT_FB_1P8 (in), M1 DCDC_V33D (in), M2 EXT_LDO_1P5 (in), N1 LGATE (in), N2 UGATE (in), P1 DIS_SW (in), P2 GND (in)

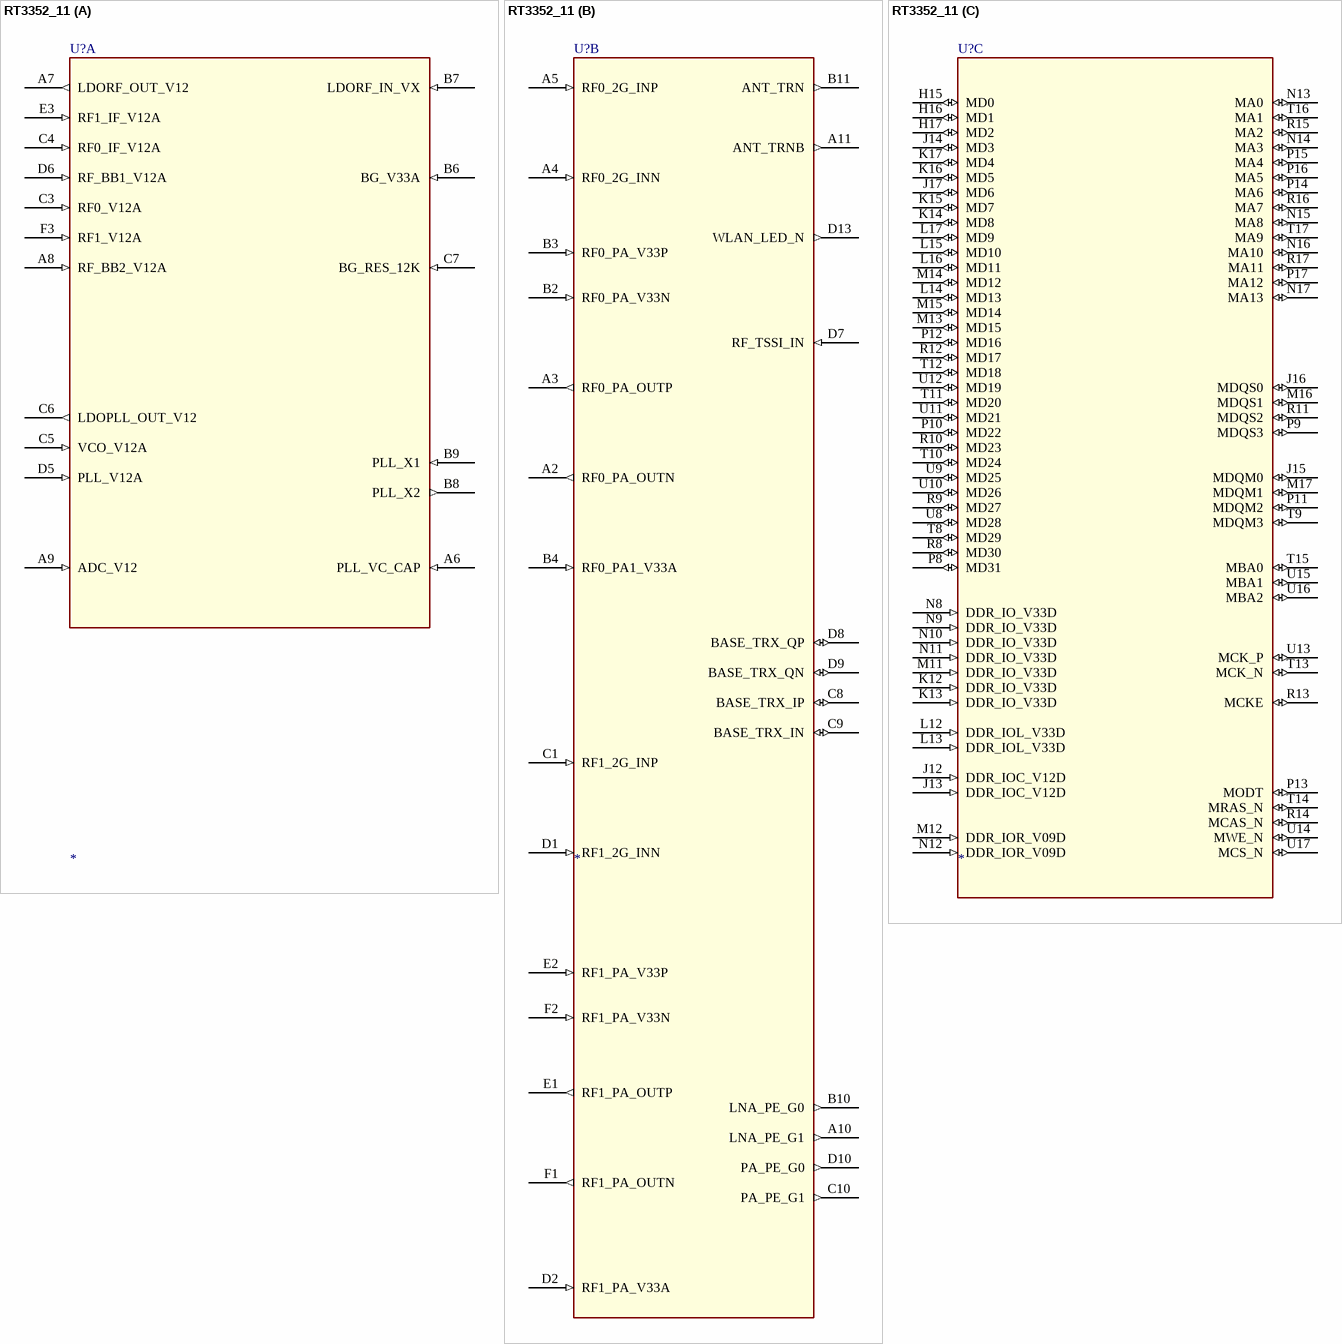
[diagram p127: symbol RT3352_11]

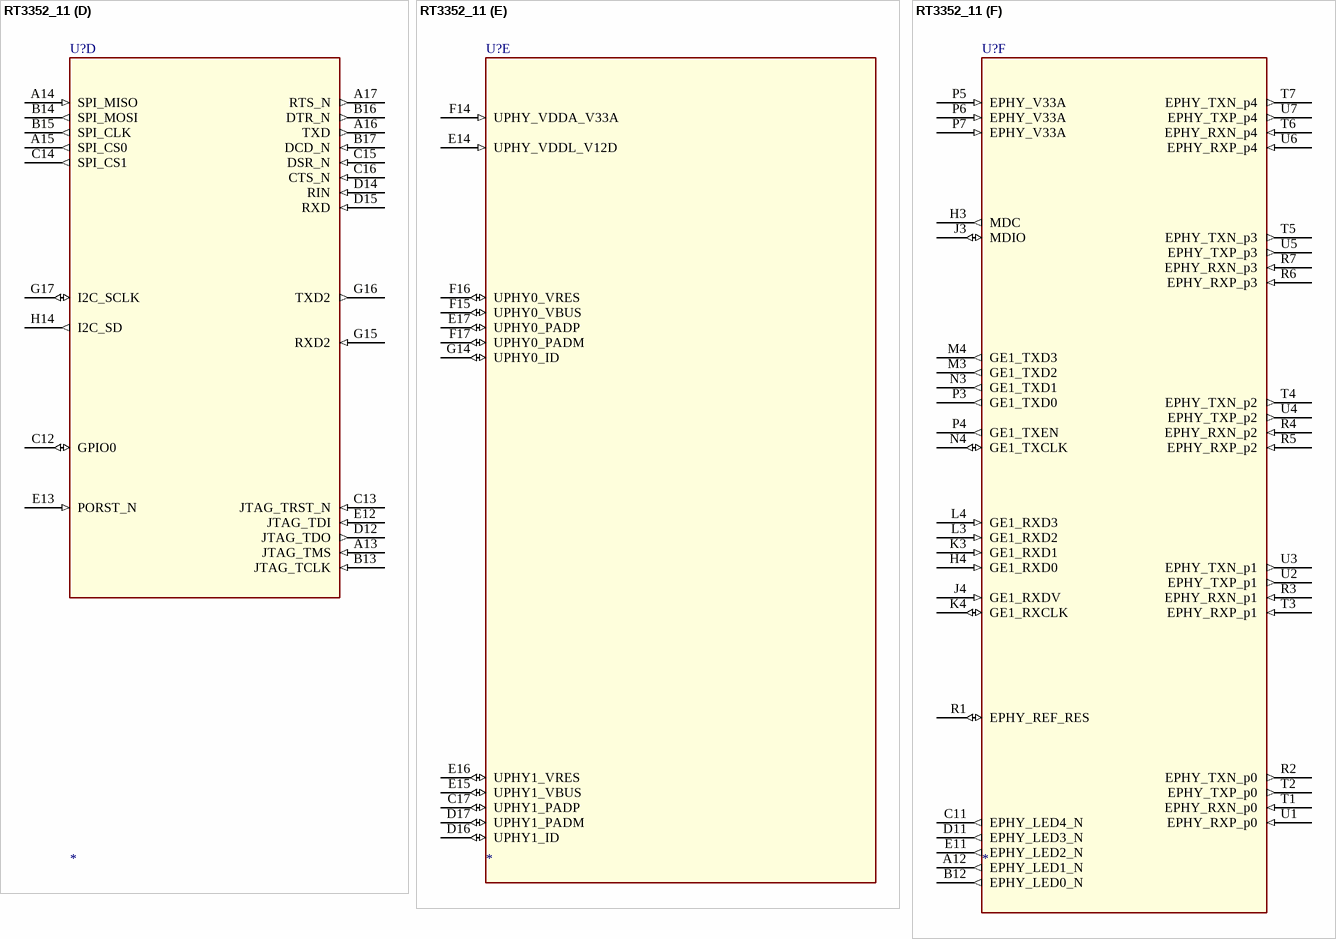
[diagram p128: symbol RT3352_11]

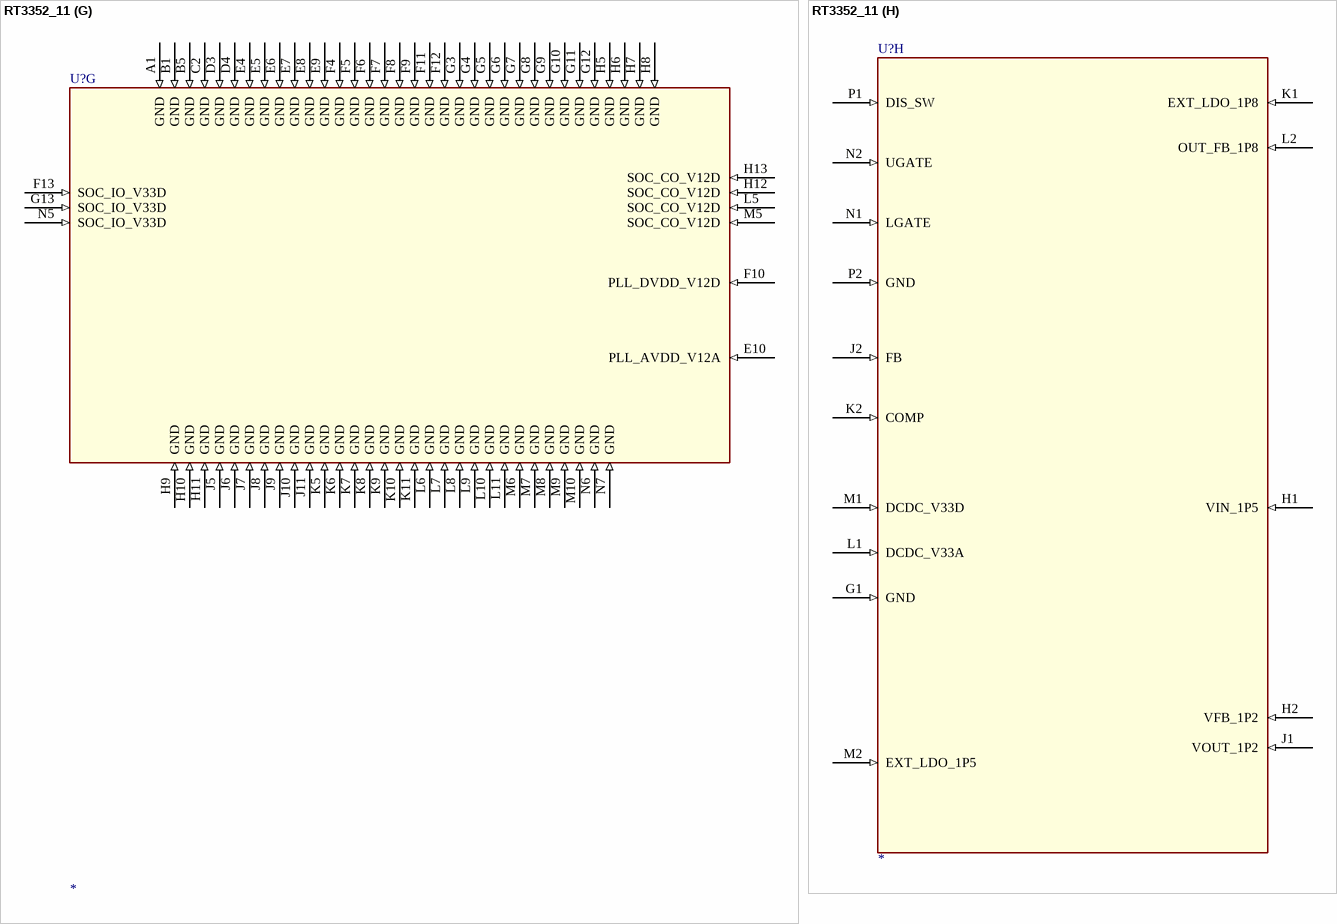
[diagram p129: symbol RT3352_11]

## RT3352_11
designator U?
part A pins: A6 PLL_VC_CAP (in), A7 LDORF_OUT_V12 (out), A8 RF_BB2_V12A (in), A9 ADC_V12 (in), B6 BG_V33A (in), B7 LDORF_IN_VX (in), B8 PLL_X2 (out), B9 PLL_X1 (in), C3 RF0_V12A (in), C4 RF0_IF_V12A (in), C5 VCO_V12A (in), C6 LDOPLL_OUT_V12 (out), C7 BG_RES_12K (in), D5 PLL_V12A (in), D6 RF_BB1_V12A (in), E3 RF1_IF_V12A (in), F3 RF1_V12A (in)
part B pins: A2 RF0_PA_OUTN (out), A3 RF0_PA_OUTP (out), A4 RF0_2G_INN (in), A5 RF0_2G_INP (in), A10 LNA_PE_G1 (out), A11 ANT_TRNB (out), B2 RF0_PA_V33N (in), B3 RF0_PA_V33P (in), B4 RF0_PA1_V33A (in), B10 LNA_PE_G0 (out), B11 ANT_TRN (out), C1 RF1_2G_INP (in), C8 BASE_TRX_IP (io), C9 BASE_TRX_IN (io), C10 PA_PE_G1 (out), D1 RF1_2G_INN (in), D2 RF1_PA_V33A (in), D7 RF_TSSI_IN (in), D8 BASE_TRX_QP (io), D9 BASE_TRX_QN (io), D10 PA_PE_G0 (out), D13 WLAN_LED_N (out), E1 RF1_PA_OUTP (out), E2 RF1_PA_V33P (in), F1 RF1_PA_OUTN (out), F2 RF1_PA_V33N (in)
part C pins: H15 MD0 (io), H16 MD1 (io), H17 MD2 (io), J12 DDR_IOC_V12D (in), J13 DDR_IOC_V12D (in), J14 MD3 (io), J15 MDQM0 (io), J16 MDQS0 (io), J17 MD6 (io), K12 DDR_IO_V33D (in), K13 DDR_IO_V33D (in), K14 MD8 (io), K15 MD7 (io), K16 MD5 (io), K17 MD4 (io), L12 DDR_IOL_V33D (in), L13 DDR_IOL_V33D (in), L14 MD13 (io), L15 MD10 (io), L16 MD11 (io), L17 MD9 (io), M11 DDR_IO_V33D (in), M12 DDR_IOR_V09D (in), M13 MD15 (io), M14 MD12 (io), M15 MD14 (io), M16 MDQS1 (io), M17 MDQM1 (io), N8 DDR_IO_V33D (in), N9 DDR_IO_V33D (in), N10 DDR_IO_V33D (in), N11 DDR_IO_V33D (in), N12 DDR_IOR_V09D (in), N13 MA0 (io), N14 MA3 (io), N15 MA8 (io), N16 MA10 (io), N17 MA13 (io), P8 MD31 (io), P9 MDQS3 (io), P10 MD22 (io), P11 MDQM2 (io), P12 MD16 (io), P13 MODT (io), P14 MA6 (io), P15 MA4 (io), P16 MA5 (io), P17 MA12 (io), R8 MD30 (io), R9 MD27 (io), R10 MD23 (io), R11 MDQS2 (io), R12 MD17 (io), R13 MCKE (io), R14 MCAS_N (io), R15 MA2 (io), R16 MA7 (io), R17 MA11 (io), T8 MD29 (io), T9 MDQM3 (io), T10 MD24 (io), T11 MD20 (io), T12 MD18 (io), T13 MCK_N (io), T14 MRAS_N (io), T15 MBA0 (io), T16 MA1 (io), T17 MA9 (io), U8 MD28 (io), U9 MD25 (io), U10 MD26 (io), U11 MD21 (io), U12 MD19 (io), U13 MCK_P (io), U14 MWE_N (io), U15 MBA1 (io), U16 MBA2 (io), U17 MCS_N (io)
part D pins: A13 JTAG_TMS (in), A14 SPI_MISO (in), A15 SPI_CS0 (out), A16 TXD (out), A17 RTS_N (out), B13 JTAG_TCLK (in), B14 SPI_MOSI (out), B15 SPI_CLK (out), B16 DTR_N (out), B17 DCD_N (in), C12 GPIO0 (io), C13 JTAG_TRST_N (in), C14 SPI_CS1 (out), C15 DSR_N (in), C16 CTS_N (in), D12 JTAG_TDO (out), D14 RIN (in), D15 RXD (in), E12 JTAG_TDI (in), E13 PORST_N (in), G15 RXD2 (in), G16 TXD2 (out), G17 I2C_SCLK (io), H14 I2C_SD (out)
part E pins: C17 UPHY1_PADP (io), D16 UPHY1_ID (io), D17 UPHY1_PADM (io), E14 UPHY_VDDL_V12D (in), E15 UPHY1_VBUS (io), E16 UPHY1_VRES (io), E17 UPHY0_PADP (io), F14 UPHY_VDDA_V33A (in), F15 UPHY0_VBUS (io), F16 UPHY0_VRES (io), F17 UPHY0_PADM (io), G14 UPHY0_ID (io)
part F pins: A12 EPHY_LED1_N (out), B12 EPHY_LED0_N (out), C11 EPHY_LED4_N (out), D11 EPHY_LED3_N (out), E11 EPHY_LED2_N (out), H3 MDC (out), H4 GE1_RXD0 (in), J3 MDIO (io), J4 GE1_RXDV (in), K3 GE1_RXD1 (in), K4 GE1_RXCLK (io), L3 GE1_RXD2 (in), L4 GE1_RXD3 (in), M3 GE1_TXD2 (out), M4 GE1_TXD3 (out), N3 GE1_TXD1 (out), N4 GE1_TXCLK (io), P3 GE1_TXD0 (out), P4 GE1_TXEN (out), P5 EPHY_V33A (in), P6 EPHY_V33A (in), P7 EPHY_V33A (in), R1 EPHY_REF_RES (io), R2 EPHY_TXN_p0 (out), R3 EPHY_RXN_p1 (in), R4 EPHY_RXN_p2 (in), R5 EPHY_RXP_p2 (in), R6 EPHY_RXP_p3 (in), R7 EPHY_RXN_p3 (in), T1 EPHY_RXN_p0 (in), T2 EPHY_TXP_p0 (out), T3 EPHY_RXP_p1 (in), T4 EPHY_TXN_p2 (out), T5 EPHY_TXN_p3 (out), T6 EPHY_RXN_p4 (in), T7 EPHY_TXN_p4 (out), U1 EPHY_RXP_p0 (in), U2 EPHY_TXP_p1 (out), U3 EPHY_TXN_p1 (out), U4 EPHY_TXP_p2 (out), U5 EPHY_TXP_p3 (out), U6 EPHY_RXP_p4 (in), U7 EPHY_TXP_p4 (out)
part G pins: A1 GND (in), B1 GND (in), B5 GND (in), C2 GND (in), D3 GND (in), D4 GND (in), E4 GND (in), E5 GND (in), E6 GND (in), E7 GND (in), E8 GND (in), E9 GND (in), E10 PLL_AVDD_V12A (in), F4 GND (in), F5 GND (in), F6 GND (in), F7 GND (in), F8 GND (in), F9 GND (in), F10 PLL_DVDD_V12D (in), F11 GND (in), F12 GND (in), F13 SOC_IO_V33D (in), G3 GND (in), G4 GND (in), G5 GND (in), G6 GND (in), G7 GND (in), G8 GND (in), G9 GND (in), G10 GND (in), G11 GND (in), G12 GND (in), G13 SOC_IO_V33D (in), H5 GND (in), H6 GND (in), H7 GND (in), H8 GND (in), H9 GND (in), H10 GND (in), H11 GND (in), H12 SOC_CO_V12D (in), H13 SOC_CO_V12D (in), J5 GND (in), J6 GND (in), J7 GND (in), J8 GND (in), J9 GND (in), J10 GND (in), J11 GND (in), K5 GND (in), K6 GND (in), K7 GND (in), K8 GND (in), K9 GND (in), K10 GND (in), K11 GND (in), L5 SOC_CO_V12D (in), L6 GND (in), L7 GND (in), L8 GND (in), L9 GND (in), L10 GND (in), L11 GND (in), M5 SOC_CO_V12D (in), M6 GND (in), M7 GND (in), M8 GND (in), M9 GND (in), M10 GND (in), N5 SOC_IO_V33D (in), N6 GND (in), N7 GND (in)
part H pins: G1 GND (in), H1 VIN_1P5 (in), H2 VFB_1P2 (in), J1 VOUT_1P2 (in), J2 FB (in), K1 EXT_LDO_1P8 (in), K2 COMP (in), L1 DCDC_V33A (in), L2 OUT_FB_1P8 (in), M1 DCDC_V33D (in), M2 EXT_LDO_1P5 (in), N1 LGATE (in), N2 UGATE (in), P1 DIS_SW (in), P2 GND (in)

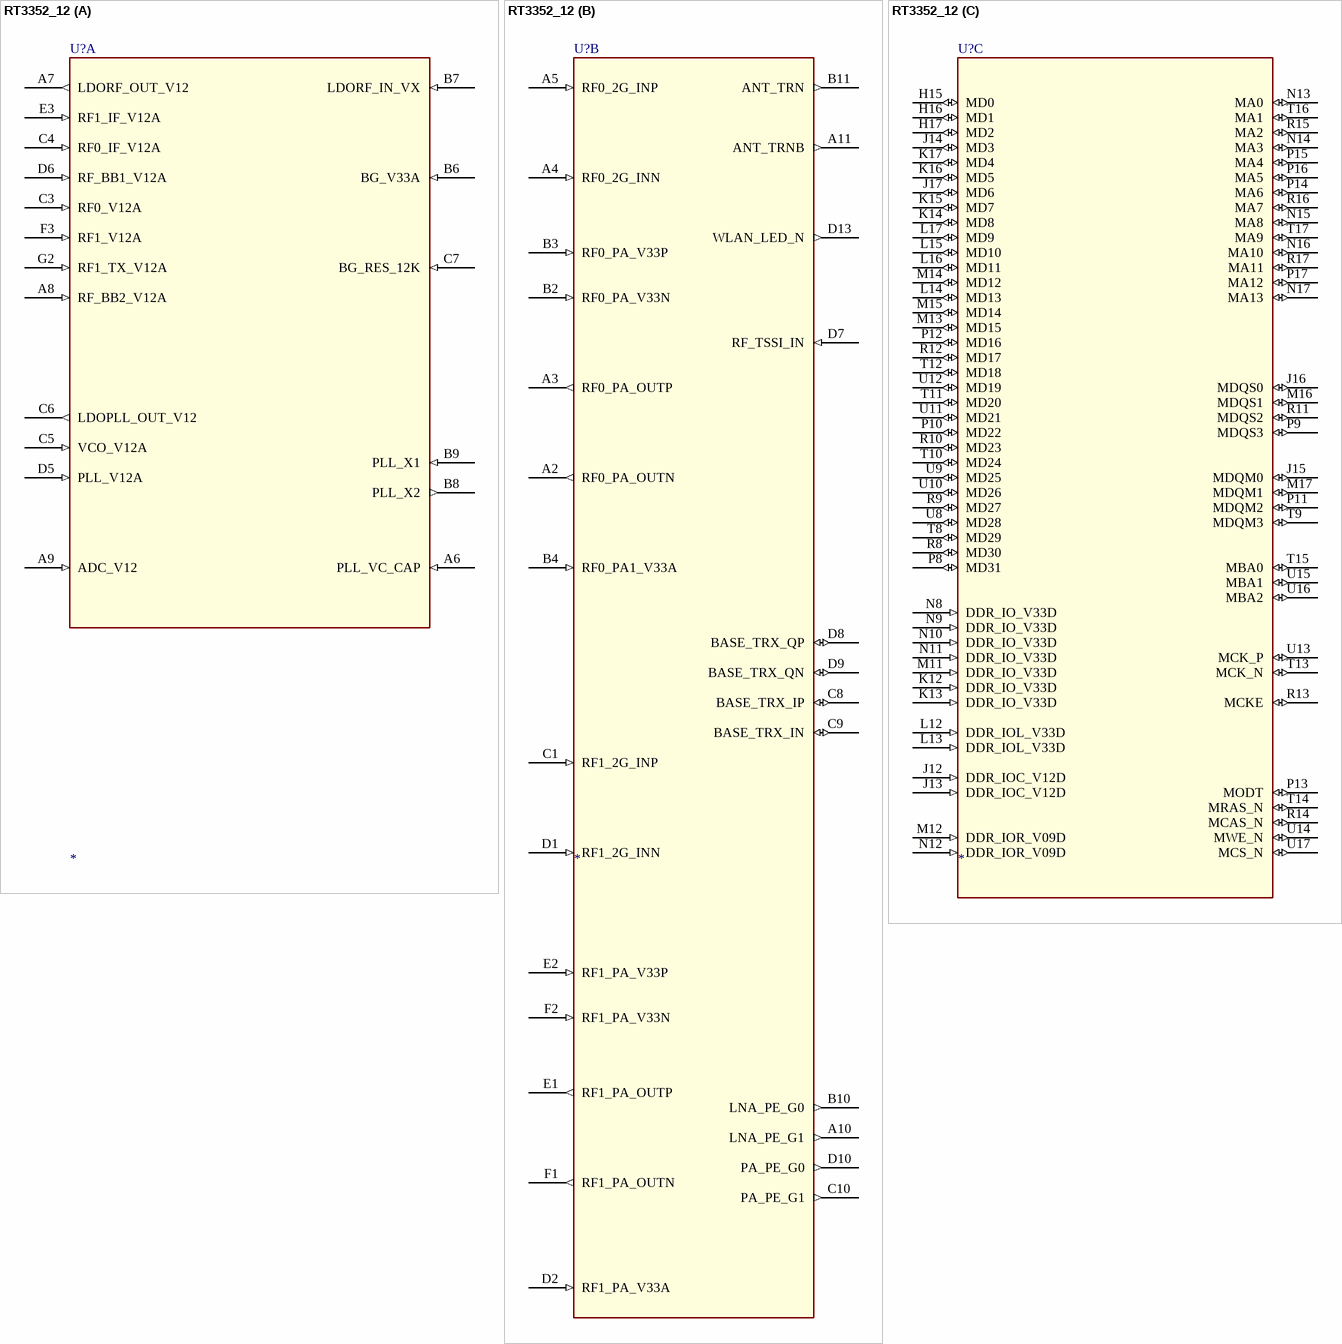
[diagram p130: symbol RT3352_12]

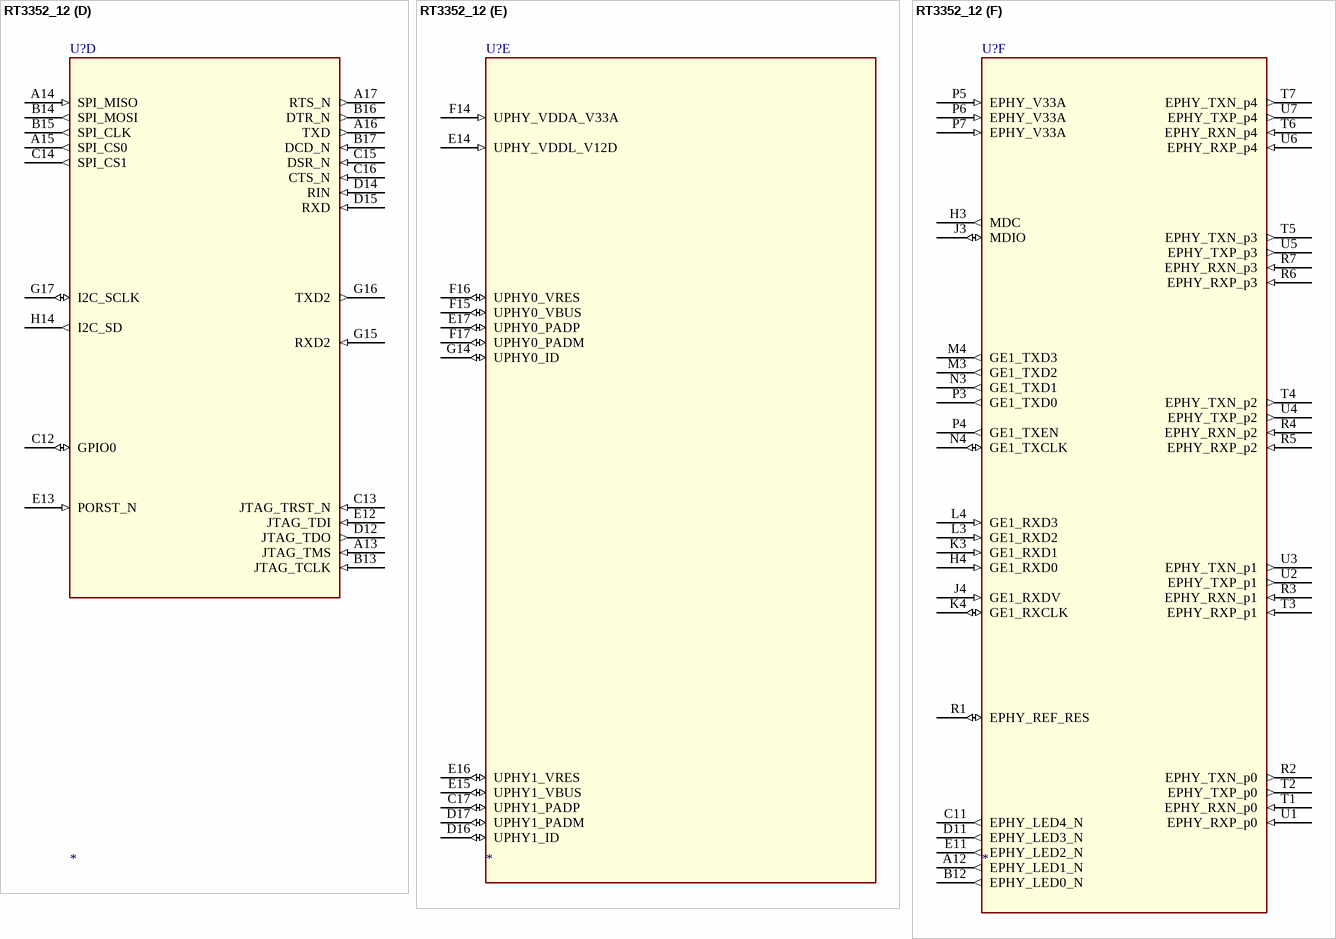
[diagram p131: symbol RT3352_12]

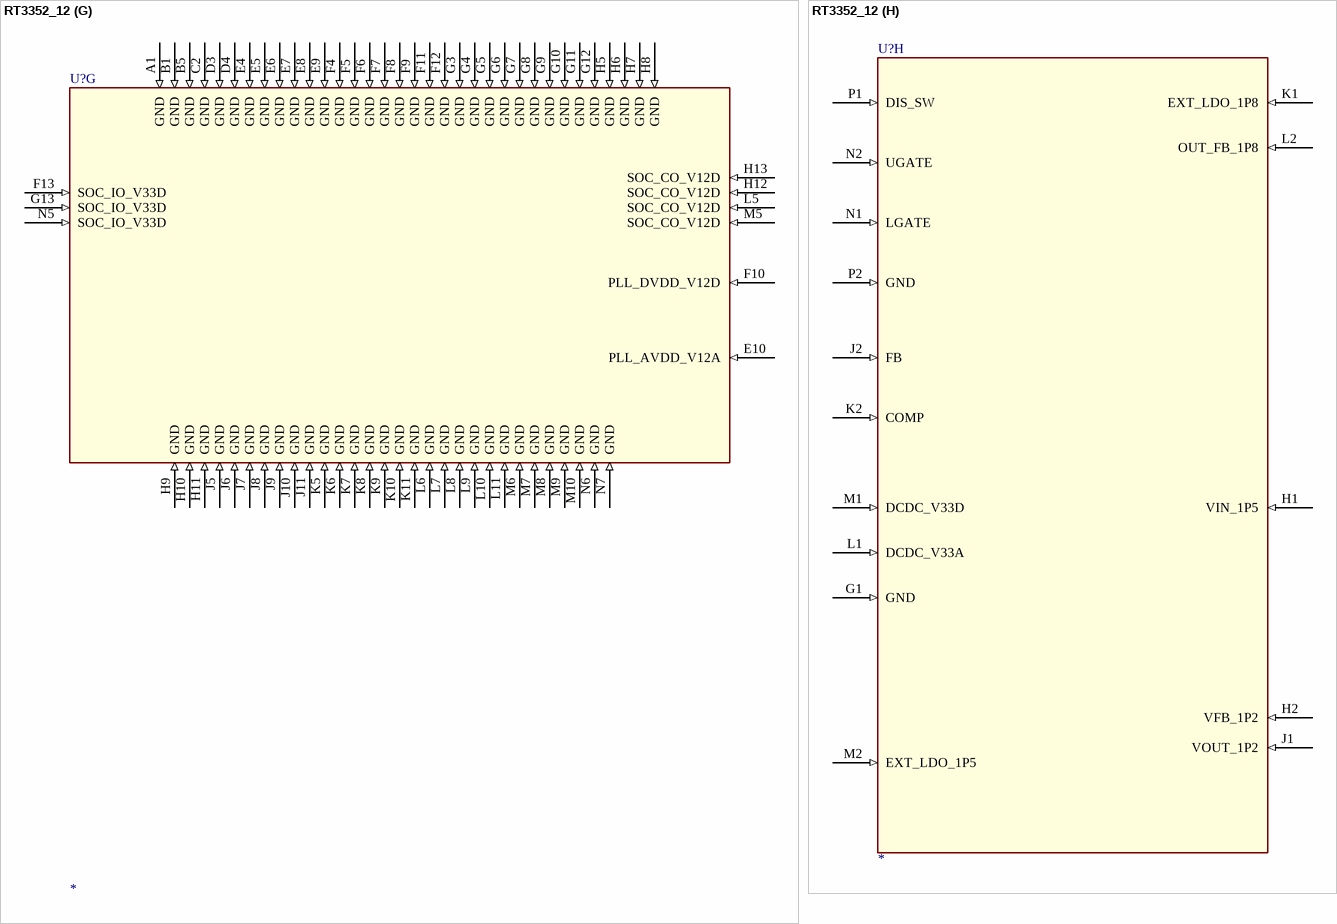
[diagram p132: symbol RT3352_12]

## RT3352_12
designator U?
part A pins: A6 PLL_VC_CAP (in), A7 LDORF_OUT_V12 (out), A8 RF_BB2_V12A (in), A9 ADC_V12 (in), B6 BG_V33A (in), B7 LDORF_IN_VX (in), B8 PLL_X2 (out), B9 PLL_X1 (in), C3 RF0_V12A (in), C4 RF0_IF_V12A (in), C5 VCO_V12A (in), C6 LDOPLL_OUT_V12 (out), C7 BG_RES_12K (in), D5 PLL_V12A (in), D6 RF_BB1_V12A (in), E3 RF1_IF_V12A (in), F3 RF1_V12A (in), G2 RF1_TX_V12A (in)
part B pins: A2 RF0_PA_OUTN (out), A3 RF0_PA_OUTP (out), A4 RF0_2G_INN (in), A5 RF0_2G_INP (in), A10 LNA_PE_G1 (out), A11 ANT_TRNB (out), B2 RF0_PA_V33N (in), B3 RF0_PA_V33P (in), B4 RF0_PA1_V33A (in), B10 LNA_PE_G0 (out), B11 ANT_TRN (out), C1 RF1_2G_INP (in), C8 BASE_TRX_IP (io), C9 BASE_TRX_IN (io), C10 PA_PE_G1 (out), D1 RF1_2G_INN (in), D2 RF1_PA_V33A (in), D7 RF_TSSI_IN (in), D8 BASE_TRX_QP (io), D9 BASE_TRX_QN (io), D10 PA_PE_G0 (out), D13 WLAN_LED_N (out), E1 RF1_PA_OUTP (out), E2 RF1_PA_V33P (in), F1 RF1_PA_OUTN (out), F2 RF1_PA_V33N (in)
part C pins: H15 MD0 (io), H16 MD1 (io), H17 MD2 (io), J12 DDR_IOC_V12D (in), J13 DDR_IOC_V12D (in), J14 MD3 (io), J15 MDQM0 (io), J16 MDQS0 (io), J17 MD6 (io), K12 DDR_IO_V33D (in), K13 DDR_IO_V33D (in), K14 MD8 (io), K15 MD7 (io), K16 MD5 (io), K17 MD4 (io), L12 DDR_IOL_V33D (in), L13 DDR_IOL_V33D (in), L14 MD13 (io), L15 MD10 (io), L16 MD11 (io), L17 MD9 (io), M11 DDR_IO_V33D (in), M12 DDR_IOR_V09D (in), M13 MD15 (io), M14 MD12 (io), M15 MD14 (io), M16 MDQS1 (io), M17 MDQM1 (io), N8 DDR_IO_V33D (in), N9 DDR_IO_V33D (in), N10 DDR_IO_V33D (in), N11 DDR_IO_V33D (in), N12 DDR_IOR_V09D (in), N13 MA0 (io), N14 MA3 (io), N15 MA8 (io), N16 MA10 (io), N17 MA13 (io), P8 MD31 (io), P9 MDQS3 (io), P10 MD22 (io), P11 MDQM2 (io), P12 MD16 (io), P13 MODT (io), P14 MA6 (io), P15 MA4 (io), P16 MA5 (io), P17 MA12 (io), R8 MD30 (io), R9 MD27 (io), R10 MD23 (io), R11 MDQS2 (io), R12 MD17 (io), R13 MCKE (io), R14 MCAS_N (io), R15 MA2 (io), R16 MA7 (io), R17 MA11 (io), T8 MD29 (io), T9 MDQM3 (io), T10 MD24 (io), T11 MD20 (io), T12 MD18 (io), T13 MCK_N (io), T14 MRAS_N (io), T15 MBA0 (io), T16 MA1 (io), T17 MA9 (io), U8 MD28 (io), U9 MD25 (io), U10 MD26 (io), U11 MD21 (io), U12 MD19 (io), U13 MCK_P (io), U14 MWE_N (io), U15 MBA1 (io), U16 MBA2 (io), U17 MCS_N (io)
part D pins: A13 JTAG_TMS (in), A14 SPI_MISO (in), A15 SPI_CS0 (out), A16 TXD (out), A17 RTS_N (out), B13 JTAG_TCLK (in), B14 SPI_MOSI (out), B15 SPI_CLK (out), B16 DTR_N (out), B17 DCD_N (in), C12 GPIO0 (io), C13 JTAG_TRST_N (in), C14 SPI_CS1 (out), C15 DSR_N (in), C16 CTS_N (in), D12 JTAG_TDO (out), D14 RIN (in), D15 RXD (in), E12 JTAG_TDI (in), E13 PORST_N (in), G15 RXD2 (in), G16 TXD2 (out), G17 I2C_SCLK (io), H14 I2C_SD (out)
part E pins: C17 UPHY1_PADP (io), D16 UPHY1_ID (io), D17 UPHY1_PADM (io), E14 UPHY_VDDL_V12D (in), E15 UPHY1_VBUS (io), E16 UPHY1_VRES (io), E17 UPHY0_PADP (io), F14 UPHY_VDDA_V33A (in), F15 UPHY0_VBUS (io), F16 UPHY0_VRES (io), F17 UPHY0_PADM (io), G14 UPHY0_ID (io)
part F pins: A12 EPHY_LED1_N (out), B12 EPHY_LED0_N (out), C11 EPHY_LED4_N (out), D11 EPHY_LED3_N (out), E11 EPHY_LED2_N (out), H3 MDC (out), H4 GE1_RXD0 (in), J3 MDIO (io), J4 GE1_RXDV (in), K3 GE1_RXD1 (in), K4 GE1_RXCLK (io), L3 GE1_RXD2 (in), L4 GE1_RXD3 (in), M3 GE1_TXD2 (out), M4 GE1_TXD3 (out), N3 GE1_TXD1 (out), N4 GE1_TXCLK (io), P3 GE1_TXD0 (out), P4 GE1_TXEN (out), P5 EPHY_V33A (in), P6 EPHY_V33A (in), P7 EPHY_V33A (in), R1 EPHY_REF_RES (io), R2 EPHY_TXN_p0 (out), R3 EPHY_RXN_p1 (in), R4 EPHY_RXN_p2 (in), R5 EPHY_RXP_p2 (in), R6 EPHY_RXP_p3 (in), R7 EPHY_RXN_p3 (in), T1 EPHY_RXN_p0 (in), T2 EPHY_TXP_p0 (out), T3 EPHY_RXP_p1 (in), T4 EPHY_TXN_p2 (out), T5 EPHY_TXN_p3 (out), T6 EPHY_RXN_p4 (in), T7 EPHY_TXN_p4 (out), U1 EPHY_RXP_p0 (in), U2 EPHY_TXP_p1 (out), U3 EPHY_TXN_p1 (out), U4 EPHY_TXP_p2 (out), U5 EPHY_TXP_p3 (out), U6 EPHY_RXP_p4 (in), U7 EPHY_TXP_p4 (out)
part G pins: A1 GND (in), B1 GND (in), B5 GND (in), C2 GND (in), D3 GND (in), D4 GND (in), E4 GND (in), E5 GND (in), E6 GND (in), E7 GND (in), E8 GND (in), E9 GND (in), E10 PLL_AVDD_V12A (in), F4 GND (in), F5 GND (in), F6 GND (in), F7 GND (in), F8 GND (in), F9 GND (in), F10 PLL_DVDD_V12D (in), F11 GND (in), F12 GND (in), F13 SOC_IO_V33D (in), G3 GND (in), G4 GND (in), G5 GND (in), G6 GND (in), G7 GND (in), G8 GND (in), G9 GND (in), G10 GND (in), G11 GND (in), G12 GND (in), G13 SOC_IO_V33D (in), H5 GND (in), H6 GND (in), H7 GND (in), H8 GND (in), H9 GND (in), H10 GND (in), H11 GND (in), H12 SOC_CO_V12D (in), H13 SOC_CO_V12D (in), J5 GND (in), J6 GND (in), J7 GND (in), J8 GND (in), J9 GND (in), J10 GND (in), J11 GND (in), K5 GND (in), K6 GND (in), K7 GND (in), K8 GND (in), K9 GND (in), K10 GND (in), K11 GND (in), L5 SOC_CO_V12D (in), L6 GND (in), L7 GND (in), L8 GND (in), L9 GND (in), L10 GND (in), L11 GND (in), M5 SOC_CO_V12D (in), M6 GND (in), M7 GND (in), M8 GND (in), M9 GND (in), M10 GND (in), N5 SOC_IO_V33D (in), N6 GND (in), N7 GND (in)
part H pins: G1 GND (in), H1 VIN_1P5 (in), H2 VFB_1P2 (in), J1 VOUT_1P2 (in), J2 FB (in), K1 EXT_LDO_1P8 (in), K2 COMP (in), L1 DCDC_V33A (in), L2 OUT_FB_1P8 (in), M1 DCDC_V33D (in), M2 EXT_LDO_1P5 (in), N1 LGATE (in), N2 UGATE (in), P1 DIS_SW (in), P2 GND (in)

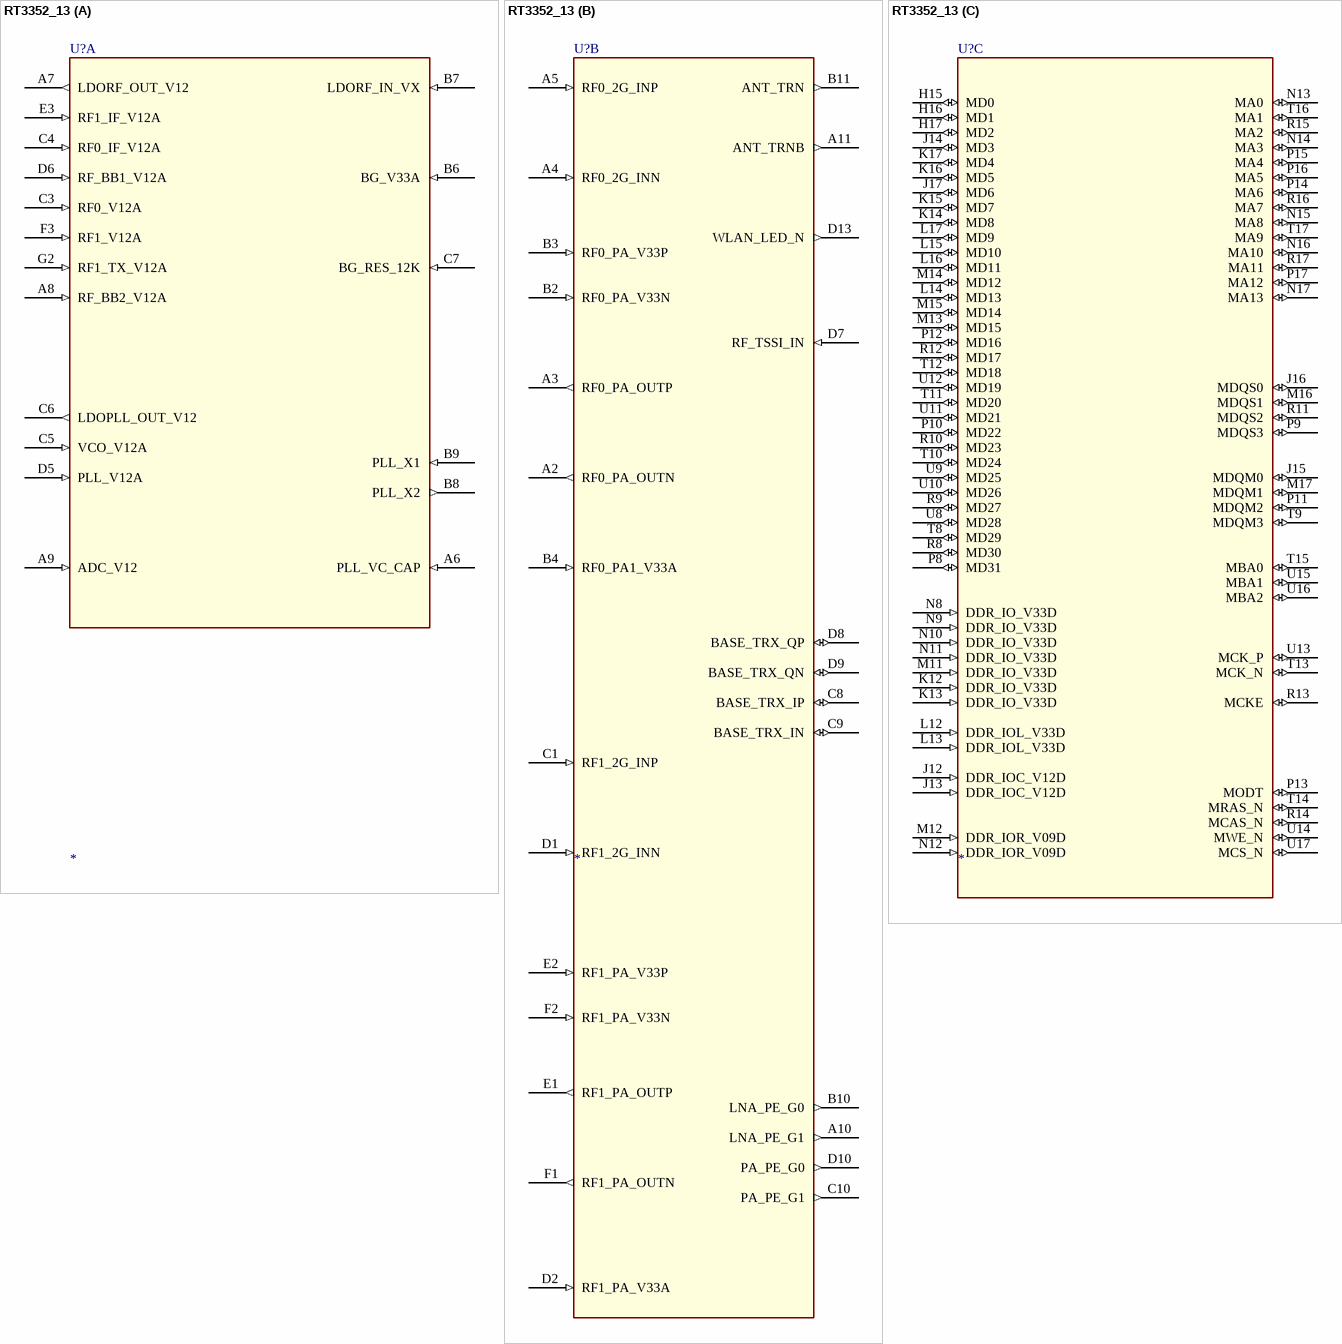
[diagram p133: symbol RT3352_13]

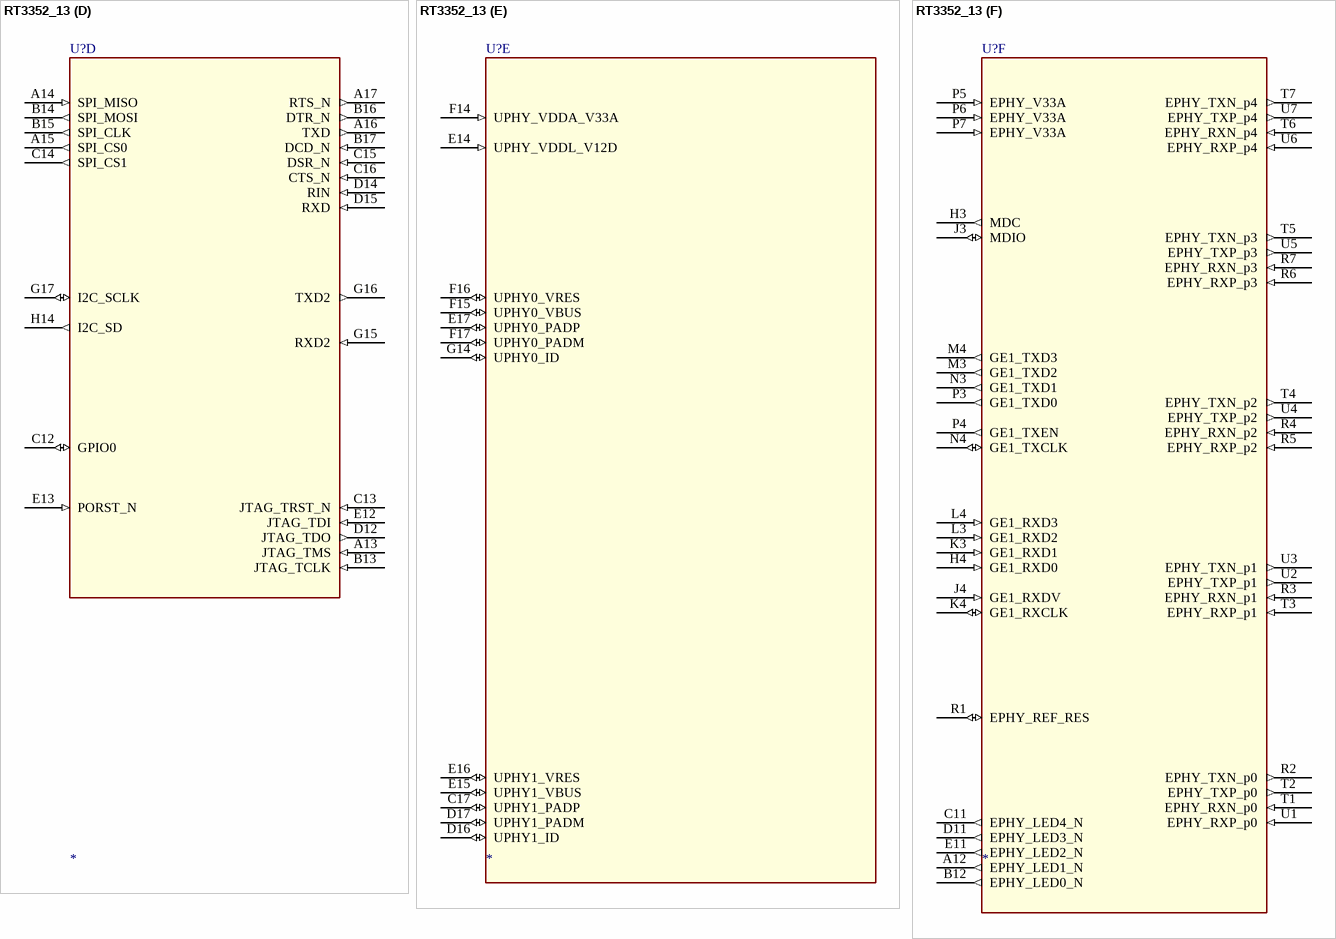
[diagram p134: symbol RT3352_13]

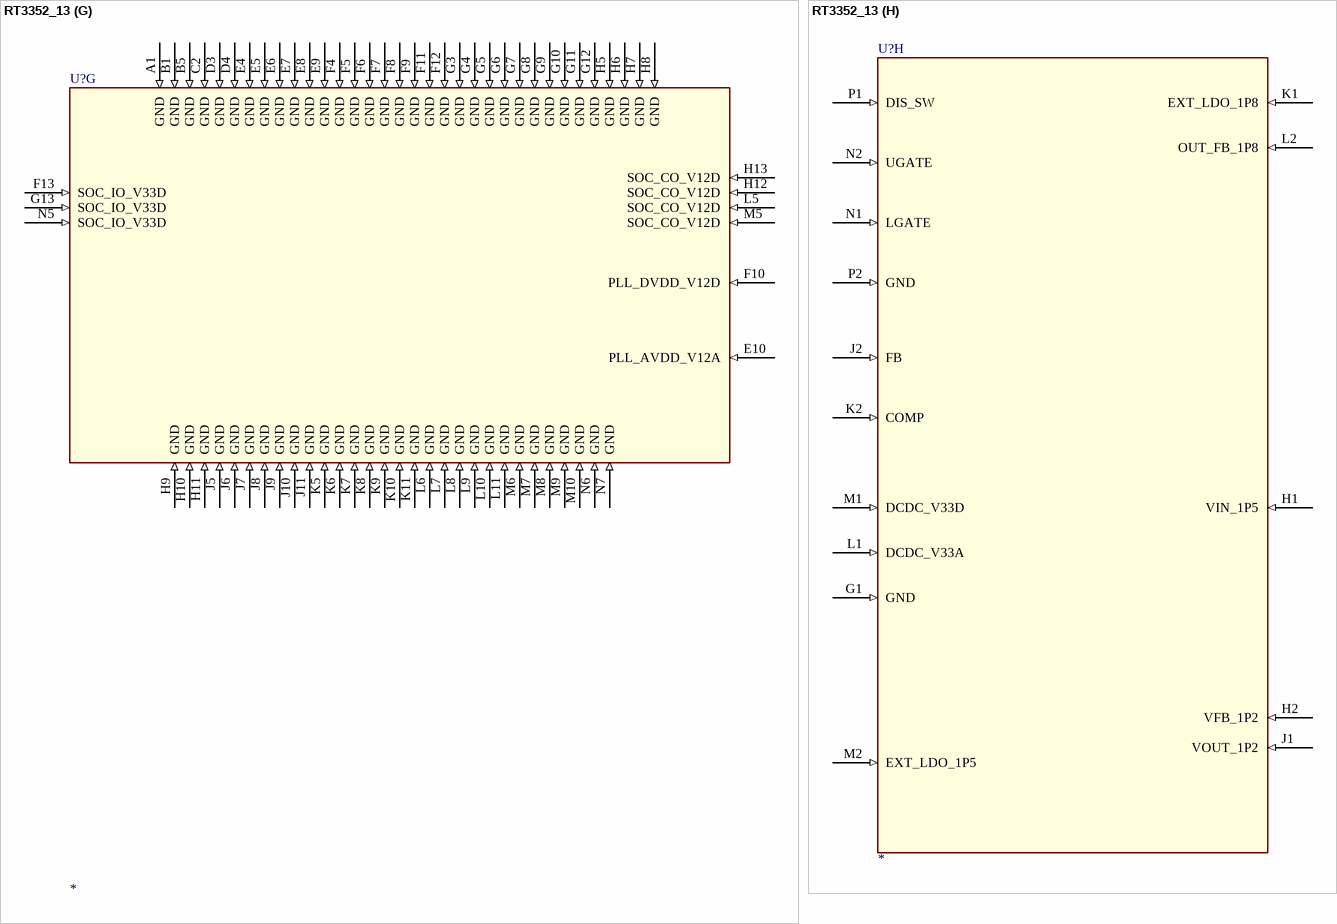
[diagram p135: symbol RT3352_13]

## RT3352_13
designator U?
part A pins: A6 PLL_VC_CAP (in), A7 LDORF_OUT_V12 (out), A8 RF_BB2_V12A (in), A9 ADC_V12 (in), B6 BG_V33A (in), B7 LDORF_IN_VX (in), B8 PLL_X2 (out), B9 PLL_X1 (in), C3 RF0_V12A (in), C4 RF0_IF_V12A (in), C5 VCO_V12A (in), C6 LDOPLL_OUT_V12 (out), C7 BG_RES_12K (in), D5 PLL_V12A (in), D6 RF_BB1_V12A (in), E3 RF1_IF_V12A (in), F3 RF1_V12A (in), G2 RF1_TX_V12A (in)
part B pins: A2 RF0_PA_OUTN (out), A3 RF0_PA_OUTP (out), A4 RF0_2G_INN (in), A5 RF0_2G_INP (in), A10 LNA_PE_G1 (out), A11 ANT_TRNB (out), B2 RF0_PA_V33N (in), B3 RF0_PA_V33P (in), B4 RF0_PA1_V33A (in), B10 LNA_PE_G0 (out), B11 ANT_TRN (out), C1 RF1_2G_INP (in), C8 BASE_TRX_IP (io), C9 BASE_TRX_IN (io), C10 PA_PE_G1 (out), D1 RF1_2G_INN (in), D2 RF1_PA_V33A (in), D7 RF_TSSI_IN (in), D8 BASE_TRX_QP (io), D9 BASE_TRX_QN (io), D10 PA_PE_G0 (out), D13 WLAN_LED_N (out), E1 RF1_PA_OUTP (out), E2 RF1_PA_V33P (in), F1 RF1_PA_OUTN (out), F2 RF1_PA_V33N (in)
part C pins: H15 MD0 (io), H16 MD1 (io), H17 MD2 (io), J12 DDR_IOC_V12D (in), J13 DDR_IOC_V12D (in), J14 MD3 (io), J15 MDQM0 (io), J16 MDQS0 (io), J17 MD6 (io), K12 DDR_IO_V33D (in), K13 DDR_IO_V33D (in), K14 MD8 (io), K15 MD7 (io), K16 MD5 (io), K17 MD4 (io), L12 DDR_IOL_V33D (in), L13 DDR_IOL_V33D (in), L14 MD13 (io), L15 MD10 (io), L16 MD11 (io), L17 MD9 (io), M11 DDR_IO_V33D (in), M12 DDR_IOR_V09D (in), M13 MD15 (io), M14 MD12 (io), M15 MD14 (io), M16 MDQS1 (io), M17 MDQM1 (io), N8 DDR_IO_V33D (in), N9 DDR_IO_V33D (in), N10 DDR_IO_V33D (in), N11 DDR_IO_V33D (in), N12 DDR_IOR_V09D (in), N13 MA0 (io), N14 MA3 (io), N15 MA8 (io), N16 MA10 (io), N17 MA13 (io), P8 MD31 (io), P9 MDQS3 (io), P10 MD22 (io), P11 MDQM2 (io), P12 MD16 (io), P13 MODT (io), P14 MA6 (io), P15 MA4 (io), P16 MA5 (io), P17 MA12 (io), R8 MD30 (io), R9 MD27 (io), R10 MD23 (io), R11 MDQS2 (io), R12 MD17 (io), R13 MCKE (io), R14 MCAS_N (io), R15 MA2 (io), R16 MA7 (io), R17 MA11 (io), T8 MD29 (io), T9 MDQM3 (io), T10 MD24 (io), T11 MD20 (io), T12 MD18 (io), T13 MCK_N (io), T14 MRAS_N (io), T15 MBA0 (io), T16 MA1 (io), T17 MA9 (io), U8 MD28 (io), U9 MD25 (io), U10 MD26 (io), U11 MD21 (io), U12 MD19 (io), U13 MCK_P (io), U14 MWE_N (io), U15 MBA1 (io), U16 MBA2 (io), U17 MCS_N (io)
part D pins: A13 JTAG_TMS (in), A14 SPI_MISO (in), A15 SPI_CS0 (out), A16 TXD (out), A17 RTS_N (out), B13 JTAG_TCLK (in), B14 SPI_MOSI (out), B15 SPI_CLK (out), B16 DTR_N (out), B17 DCD_N (in), C12 GPIO0 (io), C13 JTAG_TRST_N (in), C14 SPI_CS1 (out), C15 DSR_N (in), C16 CTS_N (in), D12 JTAG_TDO (out), D14 RIN (in), D15 RXD (in), E12 JTAG_TDI (in), E13 PORST_N (in), G15 RXD2 (in), G16 TXD2 (out), G17 I2C_SCLK (io), H14 I2C_SD (out)
part E pins: C17 UPHY1_PADP (io), D16 UPHY1_ID (io), D17 UPHY1_PADM (io), E14 UPHY_VDDL_V12D (in), E15 UPHY1_VBUS (io), E16 UPHY1_VRES (io), E17 UPHY0_PADP (io), F14 UPHY_VDDA_V33A (in), F15 UPHY0_VBUS (io), F16 UPHY0_VRES (io), F17 UPHY0_PADM (io), G14 UPHY0_ID (io)
part F pins: A12 EPHY_LED1_N (out), B12 EPHY_LED0_N (out), C11 EPHY_LED4_N (out), D11 EPHY_LED3_N (out), E11 EPHY_LED2_N (out), H3 MDC (out), H4 GE1_RXD0 (in), J3 MDIO (io), J4 GE1_RXDV (in), K3 GE1_RXD1 (in), K4 GE1_RXCLK (io), L3 GE1_RXD2 (in), L4 GE1_RXD3 (in), M3 GE1_TXD2 (out), M4 GE1_TXD3 (out), N3 GE1_TXD1 (out), N4 GE1_TXCLK (io), P3 GE1_TXD0 (out), P4 GE1_TXEN (out), P5 EPHY_V33A (in), P6 EPHY_V33A (in), P7 EPHY_V33A (in), R1 EPHY_REF_RES (io), R2 EPHY_TXN_p0 (out), R3 EPHY_RXN_p1 (in), R4 EPHY_RXN_p2 (in), R5 EPHY_RXP_p2 (in), R6 EPHY_RXP_p3 (in), R7 EPHY_RXN_p3 (in), T1 EPHY_RXN_p0 (in), T2 EPHY_TXP_p0 (out), T3 EPHY_RXP_p1 (in), T4 EPHY_TXN_p2 (out), T5 EPHY_TXN_p3 (out), T6 EPHY_RXN_p4 (in), T7 EPHY_TXN_p4 (out), U1 EPHY_RXP_p0 (in), U2 EPHY_TXP_p1 (out), U3 EPHY_TXN_p1 (out), U4 EPHY_TXP_p2 (out), U5 EPHY_TXP_p3 (out), U6 EPHY_RXP_p4 (in), U7 EPHY_TXP_p4 (out)
part G pins: A1 GND (in), B1 GND (in), B5 GND (in), C2 GND (in), D3 GND (in), D4 GND (in), E4 GND (in), E5 GND (in), E6 GND (in), E7 GND (in), E8 GND (in), E9 GND (in), E10 PLL_AVDD_V12A (in), F4 GND (in), F5 GND (in), F6 GND (in), F7 GND (in), F8 GND (in), F9 GND (in), F10 PLL_DVDD_V12D (in), F11 GND (in), F12 GND (in), F13 SOC_IO_V33D (in), G3 GND (in), G4 GND (in), G5 GND (in), G6 GND (in), G7 GND (in), G8 GND (in), G9 GND (in), G10 GND (in), G11 GND (in), G12 GND (in), G13 SOC_IO_V33D (in), H5 GND (in), H6 GND (in), H7 GND (in), H8 GND (in), H9 GND (in), H10 GND (in), H11 GND (in), H12 SOC_CO_V12D (in), H13 SOC_CO_V12D (in), J5 GND (in), J6 GND (in), J7 GND (in), J8 GND (in), J9 GND (in), J10 GND (in), J11 GND (in), K5 GND (in), K6 GND (in), K7 GND (in), K8 GND (in), K9 GND (in), K10 GND (in), K11 GND (in), L5 SOC_CO_V12D (in), L6 GND (in), L7 GND (in), L8 GND (in), L9 GND (in), L10 GND (in), L11 GND (in), M5 SOC_CO_V12D (in), M6 GND (in), M7 GND (in), M8 GND (in), M9 GND (in), M10 GND (in), N5 SOC_IO_V33D (in), N6 GND (in), N7 GND (in)
part H pins: G1 GND (in), H1 VIN_1P5 (in), H2 VFB_1P2 (in), J1 VOUT_1P2 (in), J2 FB (in), K1 EXT_LDO_1P8 (in), K2 COMP (in), L1 DCDC_V33A (in), L2 OUT_FB_1P8 (in), M1 DCDC_V33D (in), M2 EXT_LDO_1P5 (in), N1 LGATE (in), N2 UGATE (in), P1 DIS_SW (in), P2 GND (in)

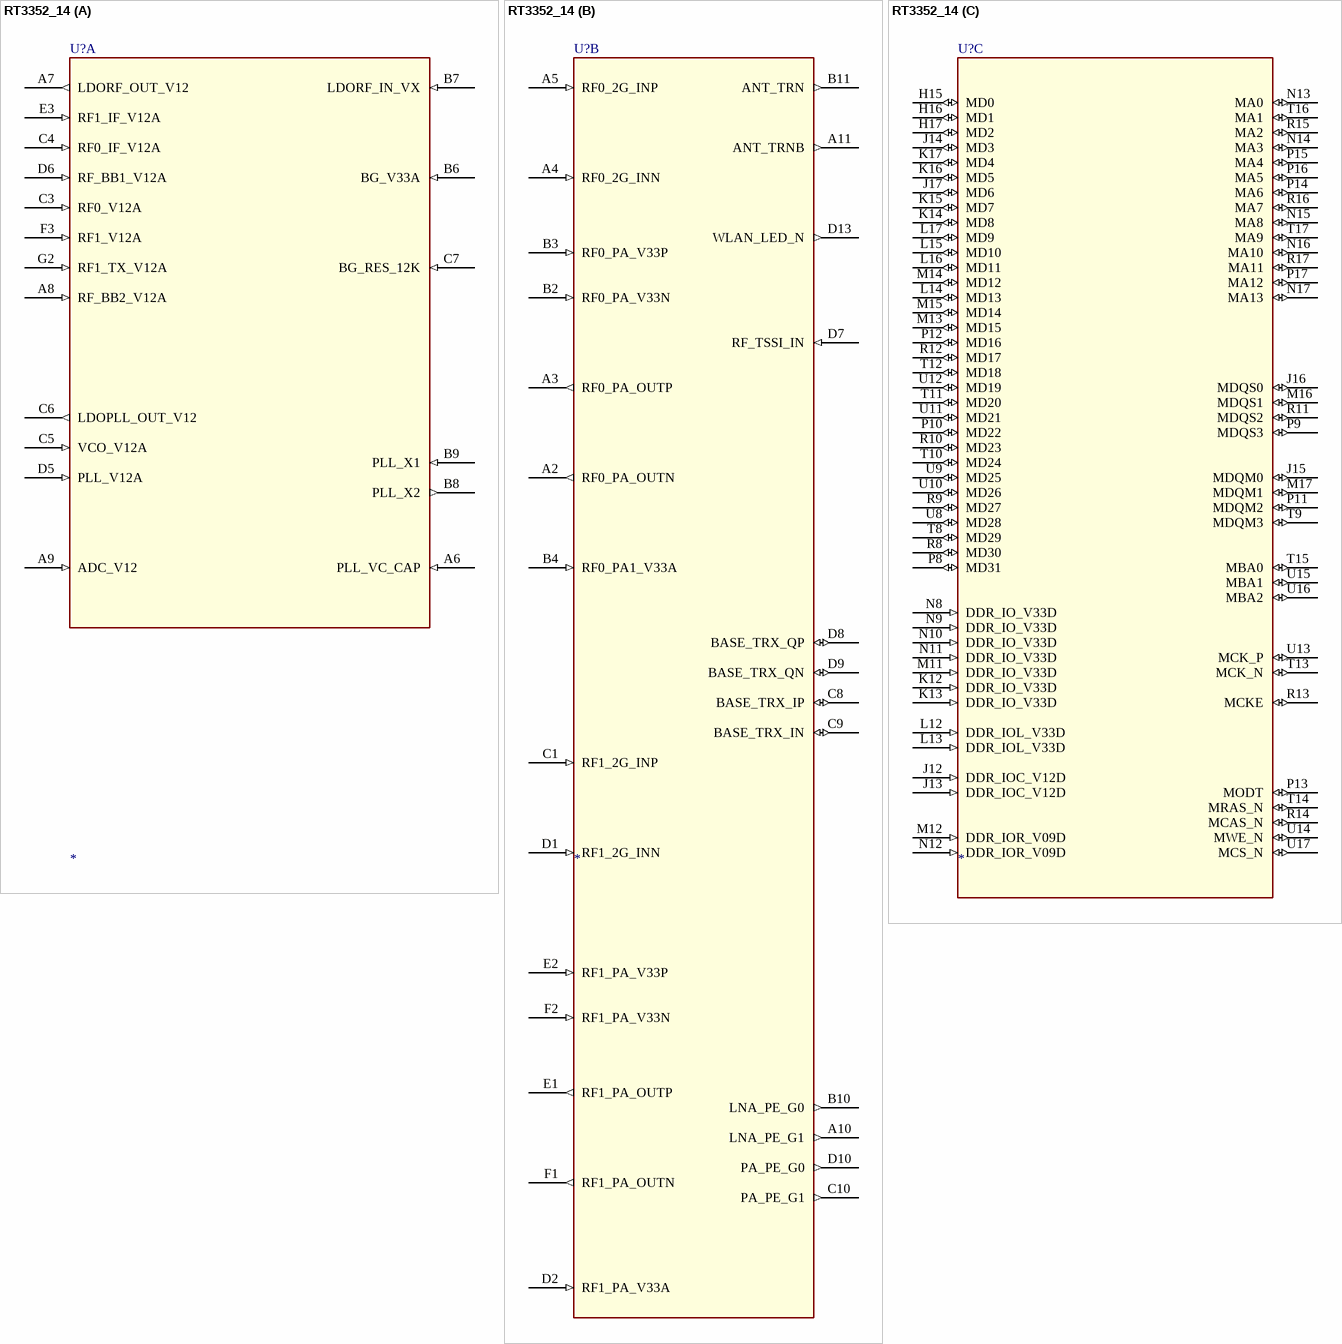
[diagram p136: symbol RT3352_14]

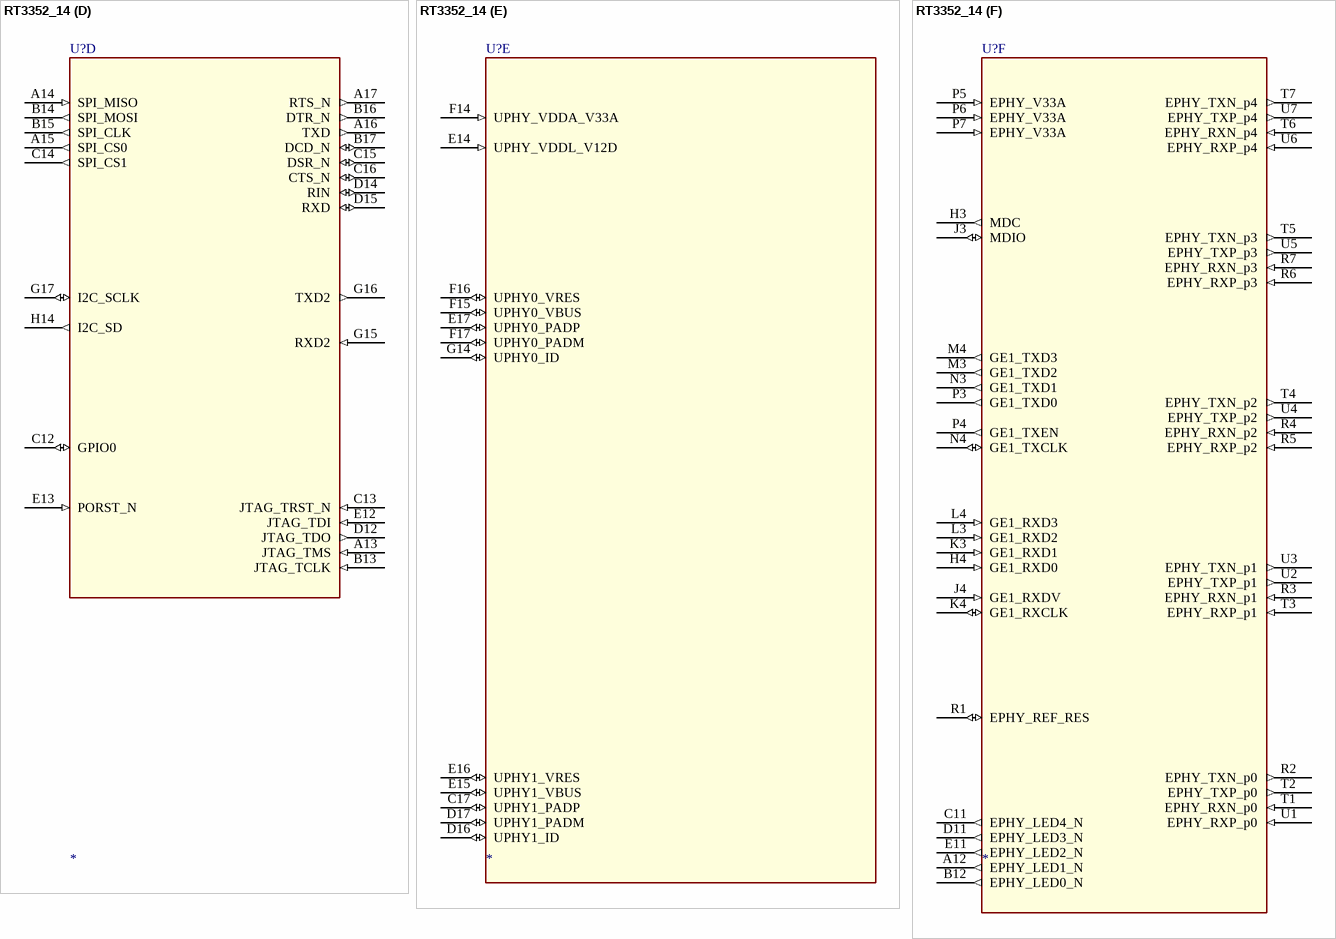
[diagram p137: symbol RT3352_14]

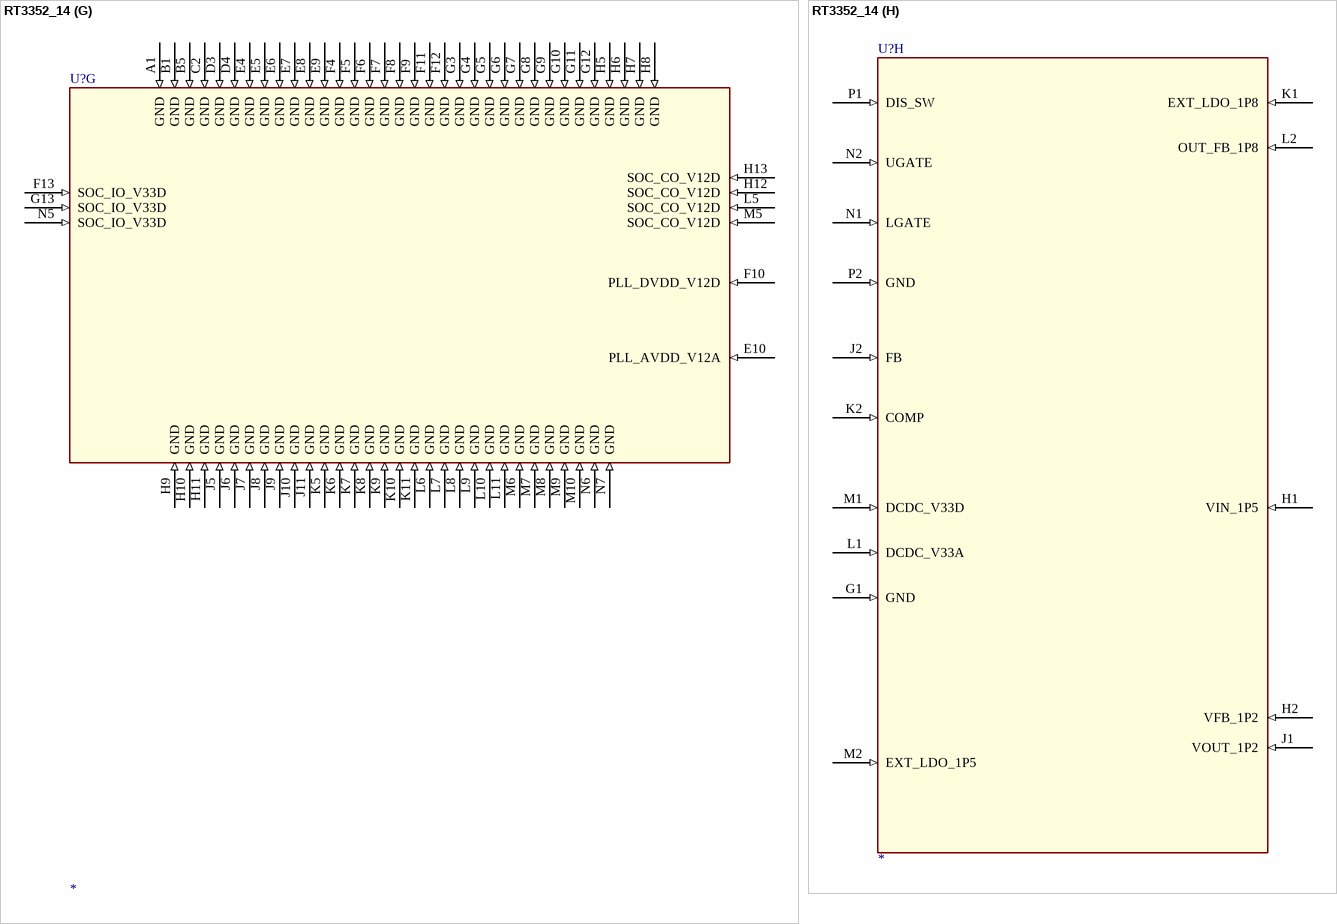
[diagram p138: symbol RT3352_14]

## RT3352_14
designator U?
part A pins: A6 PLL_VC_CAP (in), A7 LDORF_OUT_V12 (out), A8 RF_BB2_V12A (in), A9 ADC_V12 (in), B6 BG_V33A (in), B7 LDORF_IN_VX (in), B8 PLL_X2 (out), B9 PLL_X1 (in), C3 RF0_V12A (in), C4 RF0_IF_V12A (in), C5 VCO_V12A (in), C6 LDOPLL_OUT_V12 (out), C7 BG_RES_12K (in), D5 PLL_V12A (in), D6 RF_BB1_V12A (in), E3 RF1_IF_V12A (in), F3 RF1_V12A (in), G2 RF1_TX_V12A (in)
part B pins: A2 RF0_PA_OUTN (out), A3 RF0_PA_OUTP (out), A4 RF0_2G_INN (in), A5 RF0_2G_INP (in), A10 LNA_PE_G1 (out), A11 ANT_TRNB (out), B2 RF0_PA_V33N (in), B3 RF0_PA_V33P (in), B4 RF0_PA1_V33A (in), B10 LNA_PE_G0 (out), B11 ANT_TRN (out), C1 RF1_2G_INP (in), C8 BASE_TRX_IP (io), C9 BASE_TRX_IN (io), C10 PA_PE_G1 (out), D1 RF1_2G_INN (in), D2 RF1_PA_V33A (in), D7 RF_TSSI_IN (in), D8 BASE_TRX_QP (io), D9 BASE_TRX_QN (io), D10 PA_PE_G0 (out), D13 WLAN_LED_N (out), E1 RF1_PA_OUTP (out), E2 RF1_PA_V33P (in), F1 RF1_PA_OUTN (out), F2 RF1_PA_V33N (in)
part C pins: H15 MD0 (io), H16 MD1 (io), H17 MD2 (io), J12 DDR_IOC_V12D (in), J13 DDR_IOC_V12D (in), J14 MD3 (io), J15 MDQM0 (io), J16 MDQS0 (io), J17 MD6 (io), K12 DDR_IO_V33D (in), K13 DDR_IO_V33D (in), K14 MD8 (io), K15 MD7 (io), K16 MD5 (io), K17 MD4 (io), L12 DDR_IOL_V33D (in), L13 DDR_IOL_V33D (in), L14 MD13 (io), L15 MD10 (io), L16 MD11 (io), L17 MD9 (io), M11 DDR_IO_V33D (in), M12 DDR_IOR_V09D (in), M13 MD15 (io), M14 MD12 (io), M15 MD14 (io), M16 MDQS1 (io), M17 MDQM1 (io), N8 DDR_IO_V33D (in), N9 DDR_IO_V33D (in), N10 DDR_IO_V33D (in), N11 DDR_IO_V33D (in), N12 DDR_IOR_V09D (in), N13 MA0 (io), N14 MA3 (io), N15 MA8 (io), N16 MA10 (io), N17 MA13 (io), P8 MD31 (io), P9 MDQS3 (io), P10 MD22 (io), P11 MDQM2 (io), P12 MD16 (io), P13 MODT (io), P14 MA6 (io), P15 MA4 (io), P16 MA5 (io), P17 MA12 (io), R8 MD30 (io), R9 MD27 (io), R10 MD23 (io), R11 MDQS2 (io), R12 MD17 (io), R13 MCKE (io), R14 MCAS_N (io), R15 MA2 (io), R16 MA7 (io), R17 MA11 (io), T8 MD29 (io), T9 MDQM3 (io), T10 MD24 (io), T11 MD20 (io), T12 MD18 (io), T13 MCK_N (io), T14 MRAS_N (io), T15 MBA0 (io), T16 MA1 (io), T17 MA9 (io), U8 MD28 (io), U9 MD25 (io), U10 MD26 (io), U11 MD21 (io), U12 MD19 (io), U13 MCK_P (io), U14 MWE_N (io), U15 MBA1 (io), U16 MBA2 (io), U17 MCS_N (io)
part D pins: A13 JTAG_TMS (in), A14 SPI_MISO (in), A15 SPI_CS0 (out), A16 TXD (out), A17 RTS_N (out), B13 JTAG_TCLK (in), B14 SPI_MOSI (out), B15 SPI_CLK (out), B16 DTR_N (out), B17 DCD_N (io), C12 GPIO0 (io), C13 JTAG_TRST_N (in), C14 SPI_CS1 (out), C15 DSR_N (io), C16 CTS_N (io), D12 JTAG_TDO (out), D14 RIN (io), D15 RXD (io), E12 JTAG_TDI (in), E13 PORST_N (in), G15 RXD2 (in), G16 TXD2 (out), G17 I2C_SCLK (io), H14 I2C_SD (out)
part E pins: C17 UPHY1_PADP (io), D16 UPHY1_ID (io), D17 UPHY1_PADM (io), E14 UPHY_VDDL_V12D (in), E15 UPHY1_VBUS (io), E16 UPHY1_VRES (io), E17 UPHY0_PADP (io), F14 UPHY_VDDA_V33A (in), F15 UPHY0_VBUS (io), F16 UPHY0_VRES (io), F17 UPHY0_PADM (io), G14 UPHY0_ID (io)
part F pins: A12 EPHY_LED1_N (out), B12 EPHY_LED0_N (out), C11 EPHY_LED4_N (out), D11 EPHY_LED3_N (out), E11 EPHY_LED2_N (out), H3 MDC (out), H4 GE1_RXD0 (in), J3 MDIO (io), J4 GE1_RXDV (in), K3 GE1_RXD1 (in), K4 GE1_RXCLK (io), L3 GE1_RXD2 (in), L4 GE1_RXD3 (in), M3 GE1_TXD2 (out), M4 GE1_TXD3 (out), N3 GE1_TXD1 (out), N4 GE1_TXCLK (io), P3 GE1_TXD0 (out), P4 GE1_TXEN (out), P5 EPHY_V33A (in), P6 EPHY_V33A (in), P7 EPHY_V33A (in), R1 EPHY_REF_RES (io), R2 EPHY_TXN_p0 (out), R3 EPHY_RXN_p1 (in), R4 EPHY_RXN_p2 (in), R5 EPHY_RXP_p2 (in), R6 EPHY_RXP_p3 (in), R7 EPHY_RXN_p3 (in), T1 EPHY_RXN_p0 (in), T2 EPHY_TXP_p0 (out), T3 EPHY_RXP_p1 (in), T4 EPHY_TXN_p2 (out), T5 EPHY_TXN_p3 (out), T6 EPHY_RXN_p4 (in), T7 EPHY_TXN_p4 (out), U1 EPHY_RXP_p0 (in), U2 EPHY_TXP_p1 (out), U3 EPHY_TXN_p1 (out), U4 EPHY_TXP_p2 (out), U5 EPHY_TXP_p3 (out), U6 EPHY_RXP_p4 (in), U7 EPHY_TXP_p4 (out)
part G pins: A1 GND (in), B1 GND (in), B5 GND (in), C2 GND (in), D3 GND (in), D4 GND (in), E4 GND (in), E5 GND (in), E6 GND (in), E7 GND (in), E8 GND (in), E9 GND (in), E10 PLL_AVDD_V12A (in), F4 GND (in), F5 GND (in), F6 GND (in), F7 GND (in), F8 GND (in), F9 GND (in), F10 PLL_DVDD_V12D (in), F11 GND (in), F12 GND (in), F13 SOC_IO_V33D (in), G3 GND (in), G4 GND (in), G5 GND (in), G6 GND (in), G7 GND (in), G8 GND (in), G9 GND (in), G10 GND (in), G11 GND (in), G12 GND (in), G13 SOC_IO_V33D (in), H5 GND (in), H6 GND (in), H7 GND (in), H8 GND (in), H9 GND (in), H10 GND (in), H11 GND (in), H12 SOC_CO_V12D (in), H13 SOC_CO_V12D (in), J5 GND (in), J6 GND (in), J7 GND (in), J8 GND (in), J9 GND (in), J10 GND (in), J11 GND (in), K5 GND (in), K6 GND (in), K7 GND (in), K8 GND (in), K9 GND (in), K10 GND (in), K11 GND (in), L5 SOC_CO_V12D (in), L6 GND (in), L7 GND (in), L8 GND (in), L9 GND (in), L10 GND (in), L11 GND (in), M5 SOC_CO_V12D (in), M6 GND (in), M7 GND (in), M8 GND (in), M9 GND (in), M10 GND (in), N5 SOC_IO_V33D (in), N6 GND (in), N7 GND (in)
part H pins: G1 GND (in), H1 VIN_1P5 (in), H2 VFB_1P2 (in), J1 VOUT_1P2 (in), J2 FB (in), K1 EXT_LDO_1P8 (in), K2 COMP (in), L1 DCDC_V33A (in), L2 OUT_FB_1P8 (in), M1 DCDC_V33D (in), M2 EXT_LDO_1P5 (in), N1 LGATE (in), N2 UGATE (in), P1 DIS_SW (in), P2 GND (in)

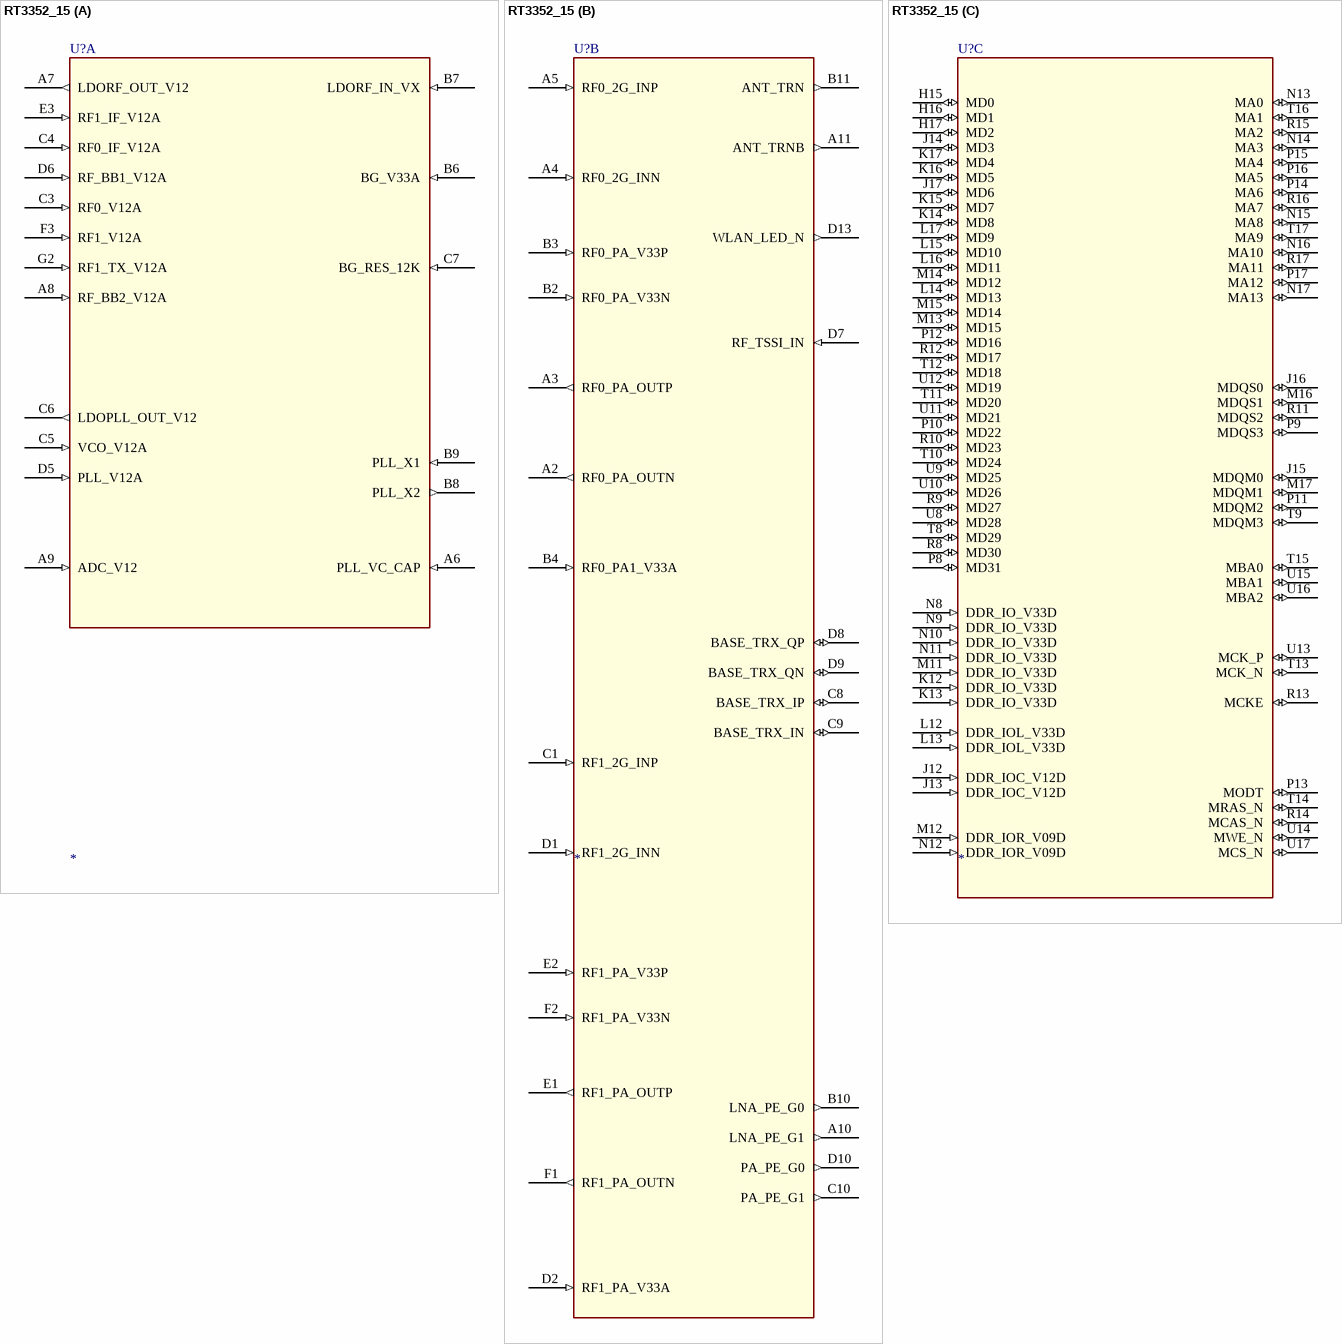
[diagram p139: symbol RT3352_15]